# Altium integrated library Kondensator_DIP.IntLib: 1521 symbols (part 2 of 5)
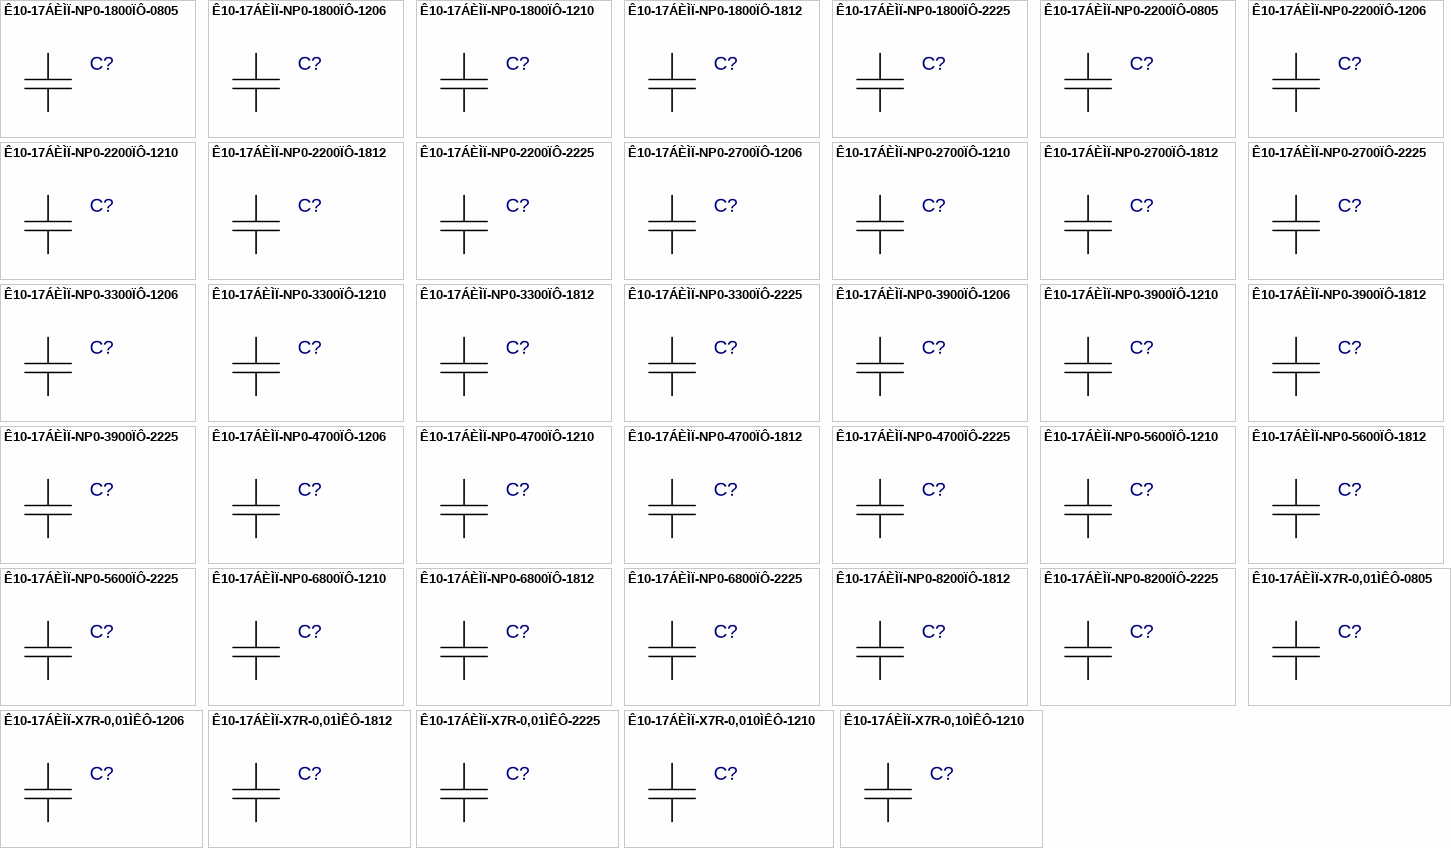
[diagram p39: symbols Ê10-17ÁÈÌÏ-NP0-1800ÏÔ-0805 to Ê10-17ÁÈÌÏ-X7R-0,10ÌÊÔ-1210]

## Ê10-17ÁÈÌÏ-NP0-6800ÏÔ-1812
designator C?  (value not drawn)
Value: *
footprint 1812_DIP
pins: 1, 2

## Ê10-17ÁÈÌÏ-NP0-6800ÏÔ-2225
designator C?  (value not drawn)
Value: *
footprint 2225_DIP
pins: 1, 2

## Ê10-17ÁÈÌÏ-NP0-8200ÏÔ-1812
designator C?  (value not drawn)
Value: *
footprint 1812_DIP
pins: 1, 2

## Ê10-17ÁÈÌÏ-NP0-8200ÏÔ-2225
designator C?  (value not drawn)
Value: *
footprint 2225_DIP
pins: 1, 2

## Ê10-17ÁÈÌÏ-X7R-0,01ÌÊÔ-0805
designator C?  (value not drawn)
Value: *
footprint 0805_DIP
pins: 1, 2

## Ê10-17ÁÈÌÏ-X7R-0,01ÌÊÔ-1206
designator C?  (value not drawn)
Value: *
footprint 1206_DIP
pins: 1, 2

## Ê10-17ÁÈÌÏ-X7R-0,01ÌÊÔ-1812
designator C?  (value not drawn)
Value: *
footprint 1812_DIP
pins: 1, 2

## Ê10-17ÁÈÌÏ-X7R-0,01ÌÊÔ-2225
designator C?  (value not drawn)
Value: *
footprint 2225_DIP
pins: 1, 2

## Ê10-17ÁÈÌÏ-X7R-0,010ÌÊÔ-1210
designator C?  (value not drawn)
Value: *
footprint 1210_DIP
pins: 1, 2

## Ê10-17ÁÈÌÏ-X7R-0,10ÌÊÔ-1210
designator C?  (value not drawn)
Value: *
footprint 1210_DIP
pins: 1, 2

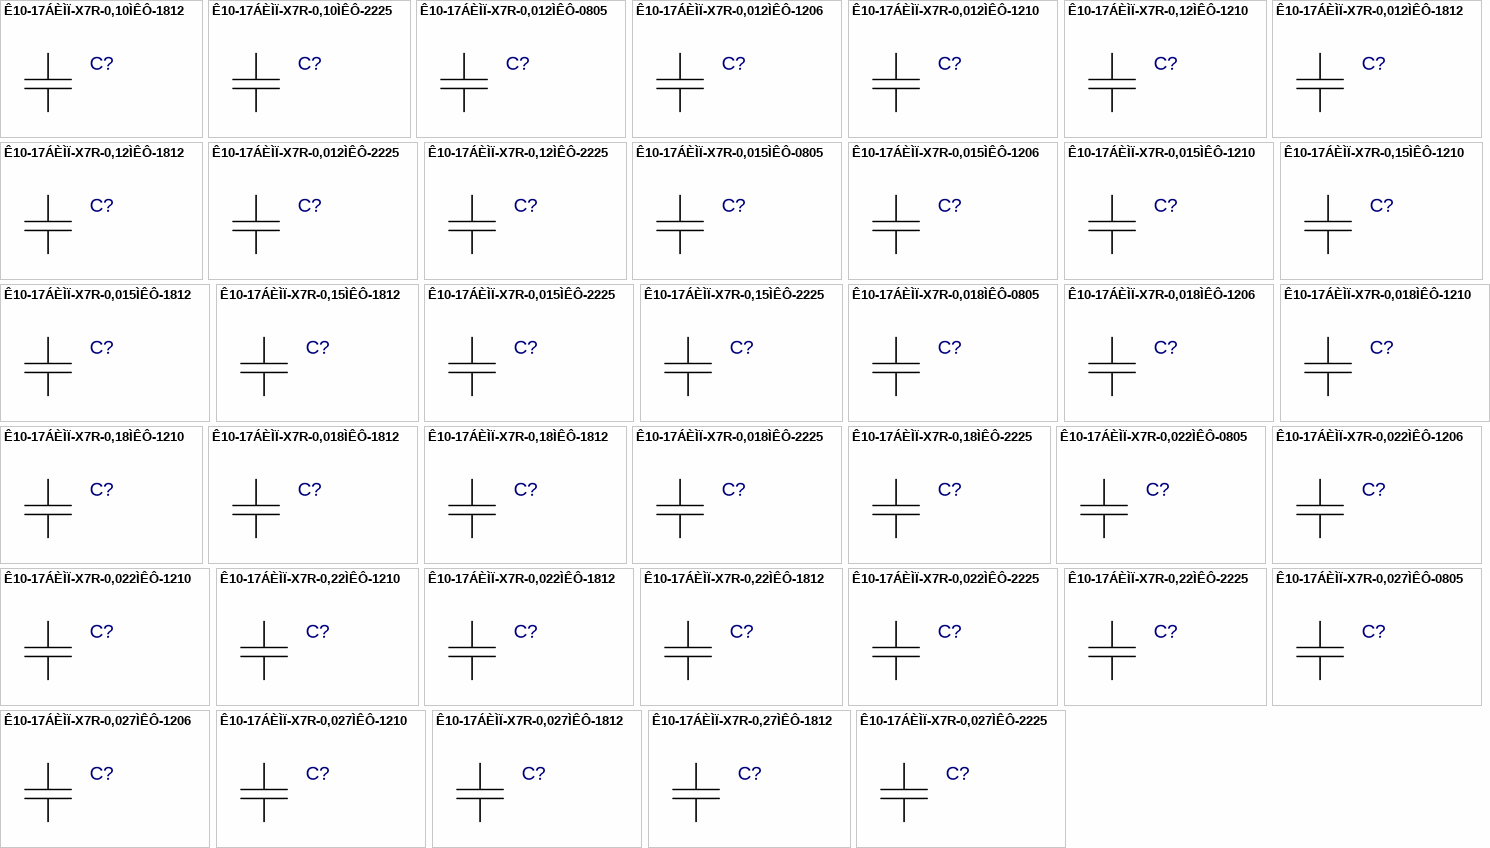
[diagram p12: symbols Ê10-17ÁÈÌÏ-X7R-0,10ÌÊÔ-1812 to Ê10-17ÁÈÌÏ-X7R-0,027ÌÊÔ-2225]

## Ê10-17ÁÈÌÏ-X7R-0,10ÌÊÔ-1812
designator C?  (value not drawn)
Value: *
footprint 1812_DIP
pins: 1, 2

## Ê10-17ÁÈÌÏ-X7R-0,10ÌÊÔ-2225
designator C?  (value not drawn)
Value: *
footprint 2225_DIP
pins: 1, 2

## Ê10-17ÁÈÌÏ-X7R-0,012ÌÊÔ-0805
designator C?  (value not drawn)
Value: *
footprint 0805_DIP
pins: 1, 2

## Ê10-17ÁÈÌÏ-X7R-0,012ÌÊÔ-1206
designator C?  (value not drawn)
Value: *
footprint 1206_DIP
pins: 1, 2

## Ê10-17ÁÈÌÏ-X7R-0,012ÌÊÔ-1210
designator C?  (value not drawn)
Value: *
footprint 1210_DIP
pins: 1, 2

## Ê10-17ÁÈÌÏ-X7R-0,12ÌÊÔ-1210
designator C?  (value not drawn)
Value: *
footprint 1210_DIP
pins: 1, 2

## Ê10-17ÁÈÌÏ-X7R-0,012ÌÊÔ-1812
designator C?  (value not drawn)
Value: *
footprint 1812_DIP
pins: 1, 2

## Ê10-17ÁÈÌÏ-X7R-0,12ÌÊÔ-1812
designator C?  (value not drawn)
Value: *
footprint 1812_DIP
pins: 1, 2

## Ê10-17ÁÈÌÏ-X7R-0,012ÌÊÔ-2225
designator C?  (value not drawn)
Value: *
footprint 2225_DIP
pins: 1, 2

## Ê10-17ÁÈÌÏ-X7R-0,12ÌÊÔ-2225
designator C?  (value not drawn)
Value: *
footprint 2225_DIP
pins: 1, 2

## Ê10-17ÁÈÌÏ-X7R-0,015ÌÊÔ-0805
designator C?  (value not drawn)
Value: *
footprint 0805_DIP
pins: 1, 2

## Ê10-17ÁÈÌÏ-X7R-0,015ÌÊÔ-1206
designator C?  (value not drawn)
Value: *
footprint 1206_DIP
pins: 1, 2

## Ê10-17ÁÈÌÏ-X7R-0,015ÌÊÔ-1210
designator C?  (value not drawn)
Value: *
footprint 1210_DIP
pins: 1, 2

## Ê10-17ÁÈÌÏ-X7R-0,15ÌÊÔ-1210
designator C?  (value not drawn)
Value: *
footprint 1210_DIP
pins: 1, 2

## Ê10-17ÁÈÌÏ-X7R-0,015ÌÊÔ-1812
designator C?  (value not drawn)
Value: *
footprint 1812_DIP
pins: 1, 2

## Ê10-17ÁÈÌÏ-X7R-0,15ÌÊÔ-1812
designator C?  (value not drawn)
Value: *
footprint 1812_DIP
pins: 1, 2

## Ê10-17ÁÈÌÏ-X7R-0,015ÌÊÔ-2225
designator C?  (value not drawn)
Value: *
footprint 2225_DIP
pins: 1, 2

## Ê10-17ÁÈÌÏ-X7R-0,15ÌÊÔ-2225
designator C?  (value not drawn)
Value: *
footprint 2225_DIP
pins: 1, 2

## Ê10-17ÁÈÌÏ-X7R-0,018ÌÊÔ-0805
designator C?  (value not drawn)
Value: *
footprint 0805_DIP
pins: 1, 2

## Ê10-17ÁÈÌÏ-X7R-0,018ÌÊÔ-1206
designator C?  (value not drawn)
Value: *
footprint 1206_DIP
pins: 1, 2

## Ê10-17ÁÈÌÏ-X7R-0,018ÌÊÔ-1210
designator C?  (value not drawn)
Value: *
footprint 1210_DIP
pins: 1, 2

## Ê10-17ÁÈÌÏ-X7R-0,18ÌÊÔ-1210
designator C?  (value not drawn)
Value: *
footprint 1210_DIP
pins: 1, 2

## Ê10-17ÁÈÌÏ-X7R-0,018ÌÊÔ-1812
designator C?  (value not drawn)
Value: *
footprint 1812_DIP
pins: 1, 2

## Ê10-17ÁÈÌÏ-X7R-0,18ÌÊÔ-1812
designator C?  (value not drawn)
Value: *
footprint 1812_DIP
pins: 1, 2

## Ê10-17ÁÈÌÏ-X7R-0,018ÌÊÔ-2225
designator C?  (value not drawn)
Value: *
footprint 2225_DIP
pins: 1, 2

## Ê10-17ÁÈÌÏ-X7R-0,18ÌÊÔ-2225
designator C?  (value not drawn)
Value: *
footprint 2225_DIP
pins: 1, 2

## Ê10-17ÁÈÌÏ-X7R-0,022ÌÊÔ-0805
designator C?  (value not drawn)
Value: *
footprint 0805_DIP
pins: 1, 2

## Ê10-17ÁÈÌÏ-X7R-0,022ÌÊÔ-1206
designator C?  (value not drawn)
Value: *
footprint 1206_DIP
pins: 1, 2

## Ê10-17ÁÈÌÏ-X7R-0,022ÌÊÔ-1210
designator C?  (value not drawn)
Value: *
footprint 1210_DIP
pins: 1, 2

## Ê10-17ÁÈÌÏ-X7R-0,22ÌÊÔ-1210
designator C?  (value not drawn)
Value: *
footprint 1210_DIP
pins: 1, 2

## Ê10-17ÁÈÌÏ-X7R-0,022ÌÊÔ-1812
designator C?  (value not drawn)
Value: *
footprint 1812_DIP
pins: 1, 2

## Ê10-17ÁÈÌÏ-X7R-0,22ÌÊÔ-1812
designator C?  (value not drawn)
Value: *
footprint 1812_DIP
pins: 1, 2

## Ê10-17ÁÈÌÏ-X7R-0,022ÌÊÔ-2225
designator C?  (value not drawn)
Value: *
footprint 2225_DIP
pins: 1, 2

## Ê10-17ÁÈÌÏ-X7R-0,22ÌÊÔ-2225
designator C?  (value not drawn)
Value: *
footprint 2225_DIP
pins: 1, 2

## Ê10-17ÁÈÌÏ-X7R-0,027ÌÊÔ-0805
designator C?  (value not drawn)
Value: *
footprint 0805_DIP
pins: 1, 2

## Ê10-17ÁÈÌÏ-X7R-0,027ÌÊÔ-1206
designator C?  (value not drawn)
Value: *
footprint 1206_DIP
pins: 1, 2

## Ê10-17ÁÈÌÏ-X7R-0,027ÌÊÔ-1210
designator C?  (value not drawn)
Value: *
footprint 1210_DIP
pins: 1, 2

## Ê10-17ÁÈÌÏ-X7R-0,027ÌÊÔ-1812
designator C?  (value not drawn)
Value: *
footprint 1812_DIP
pins: 1, 2

## Ê10-17ÁÈÌÏ-X7R-0,27ÌÊÔ-1812
designator C?  (value not drawn)
Value: *
footprint 1812_DIP
pins: 1, 2

## Ê10-17ÁÈÌÏ-X7R-0,027ÌÊÔ-2225
designator C?  (value not drawn)
Value: *
footprint 2225_DIP
pins: 1, 2

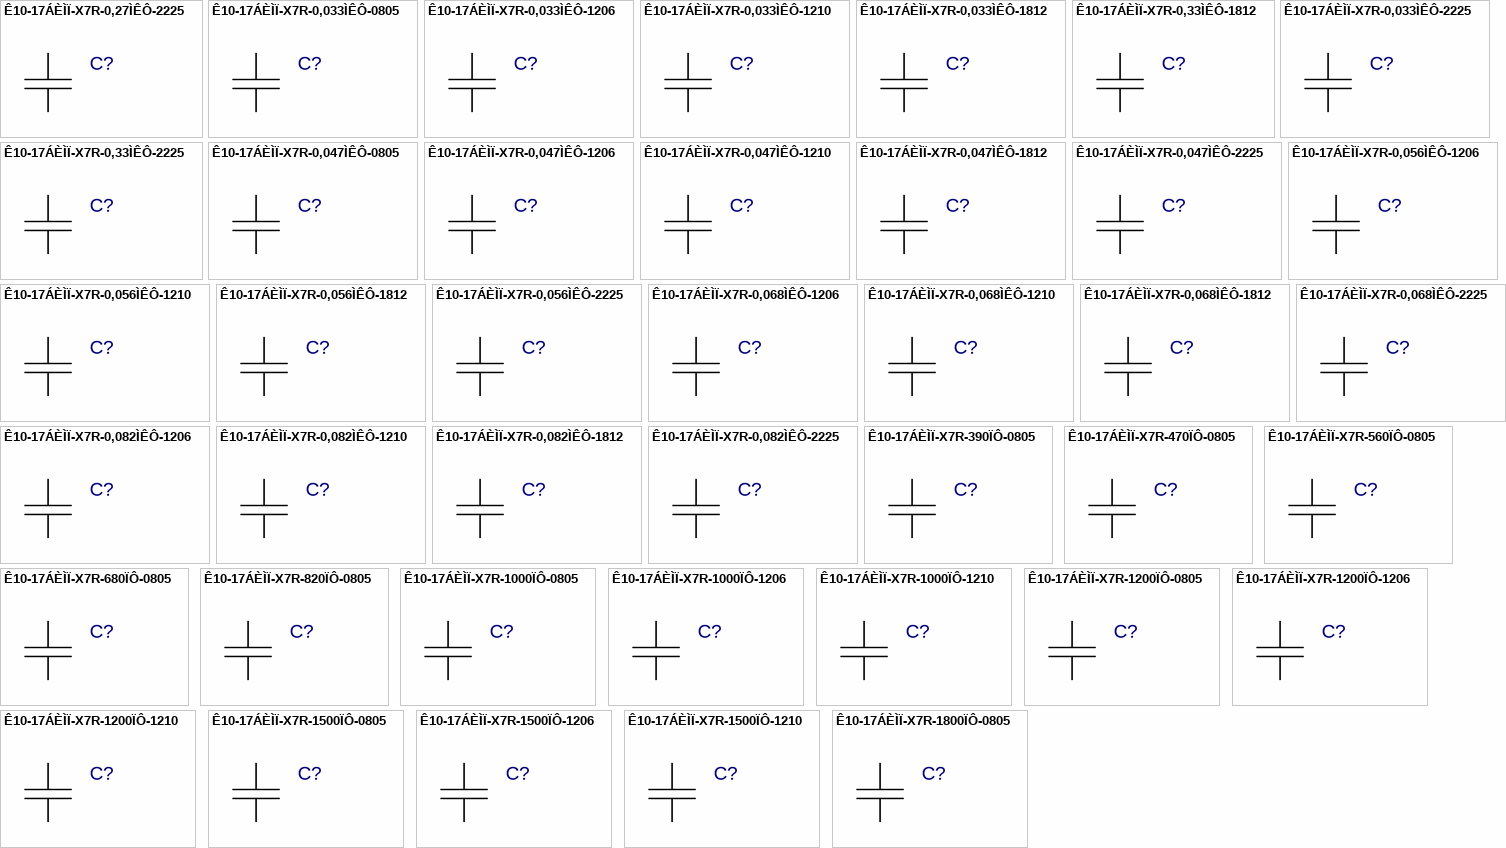
[diagram p13: symbols Ê10-17ÁÈÌÏ-X7R-0,27ÌÊÔ-2225 to Ê10-17ÁÈÌÏ-X7R-1800ÏÔ-0805]

## Ê10-17ÁÈÌÏ-X7R-0,27ÌÊÔ-2225
designator C?  (value not drawn)
Value: *
footprint 2225_DIP
pins: 1, 2

## Ê10-17ÁÈÌÏ-X7R-0,033ÌÊÔ-0805
designator C?  (value not drawn)
Value: *
footprint 0805_DIP
pins: 1, 2

## Ê10-17ÁÈÌÏ-X7R-0,033ÌÊÔ-1206
designator C?  (value not drawn)
Value: *
footprint 1206_DIP
pins: 1, 2

## Ê10-17ÁÈÌÏ-X7R-0,033ÌÊÔ-1210
designator C?  (value not drawn)
Value: *
footprint 1210_DIP
pins: 1, 2

## Ê10-17ÁÈÌÏ-X7R-0,033ÌÊÔ-1812
designator C?  (value not drawn)
Value: *
footprint 1812_DIP
pins: 1, 2

## Ê10-17ÁÈÌÏ-X7R-0,33ÌÊÔ-1812
designator C?  (value not drawn)
Value: *
footprint 1812_DIP
pins: 1, 2

## Ê10-17ÁÈÌÏ-X7R-0,033ÌÊÔ-2225
designator C?  (value not drawn)
Value: *
footprint 2225_DIP
pins: 1, 2

## Ê10-17ÁÈÌÏ-X7R-0,33ÌÊÔ-2225
designator C?  (value not drawn)
Value: *
footprint 2225_DIP
pins: 1, 2

## Ê10-17ÁÈÌÏ-X7R-0,047ÌÊÔ-0805
designator C?  (value not drawn)
Value: *
footprint 0805_DIP
pins: 1, 2

## Ê10-17ÁÈÌÏ-X7R-0,047ÌÊÔ-1206
designator C?  (value not drawn)
Value: *
footprint 1206_DIP
pins: 1, 2

## Ê10-17ÁÈÌÏ-X7R-0,047ÌÊÔ-1210
designator C?  (value not drawn)
Value: *
footprint 1210_DIP
pins: 1, 2

## Ê10-17ÁÈÌÏ-X7R-0,047ÌÊÔ-1812
designator C?  (value not drawn)
Value: *
footprint 1812_DIP
pins: 1, 2

## Ê10-17ÁÈÌÏ-X7R-0,047ÌÊÔ-2225
designator C?  (value not drawn)
Value: *
footprint 2225_DIP
pins: 1, 2

## Ê10-17ÁÈÌÏ-X7R-0,056ÌÊÔ-1206
designator C?  (value not drawn)
Value: *
footprint 1206_DIP
pins: 1, 2

## Ê10-17ÁÈÌÏ-X7R-0,056ÌÊÔ-1210
designator C?  (value not drawn)
Value: *
footprint 1210_DIP
pins: 1, 2

## Ê10-17ÁÈÌÏ-X7R-0,056ÌÊÔ-1812
designator C?  (value not drawn)
Value: *
footprint 1812_DIP
pins: 1, 2

## Ê10-17ÁÈÌÏ-X7R-0,056ÌÊÔ-2225
designator C?  (value not drawn)
Value: *
footprint 2225_DIP
pins: 1, 2

## Ê10-17ÁÈÌÏ-X7R-0,068ÌÊÔ-1206
designator C?  (value not drawn)
Value: *
footprint 1206_DIP
pins: 1, 2

## Ê10-17ÁÈÌÏ-X7R-0,068ÌÊÔ-1210
designator C?  (value not drawn)
Value: *
footprint 1210_DIP
pins: 1, 2

## Ê10-17ÁÈÌÏ-X7R-0,068ÌÊÔ-1812
designator C?  (value not drawn)
Value: *
footprint 1812_DIP
pins: 1, 2

## Ê10-17ÁÈÌÏ-X7R-0,068ÌÊÔ-2225
designator C?  (value not drawn)
Value: *
footprint 2225_DIP
pins: 1, 2

## Ê10-17ÁÈÌÏ-X7R-0,082ÌÊÔ-1206
designator C?  (value not drawn)
Value: *
footprint 1206_DIP
pins: 1, 2

## Ê10-17ÁÈÌÏ-X7R-0,082ÌÊÔ-1210
designator C?  (value not drawn)
Value: *
footprint 1210_DIP
pins: 1, 2

## Ê10-17ÁÈÌÏ-X7R-0,082ÌÊÔ-1812
designator C?  (value not drawn)
Value: *
footprint 1812_DIP
pins: 1, 2

## Ê10-17ÁÈÌÏ-X7R-0,082ÌÊÔ-2225
designator C?  (value not drawn)
Value: *
footprint 2225_DIP
pins: 1, 2

## Ê10-17ÁÈÌÏ-X7R-390ÏÔ-0805
designator C?  (value not drawn)
Value: *
footprint 0805_DIP
pins: 1, 2

## Ê10-17ÁÈÌÏ-X7R-470ÏÔ-0805
designator C?  (value not drawn)
Value: *
footprint 0805_DIP
pins: 1, 2

## Ê10-17ÁÈÌÏ-X7R-560ÏÔ-0805
designator C?  (value not drawn)
Value: *
footprint 0805_DIP
pins: 1, 2

## Ê10-17ÁÈÌÏ-X7R-680ÏÔ-0805
designator C?  (value not drawn)
Value: *
footprint 0805_DIP
pins: 1, 2

## Ê10-17ÁÈÌÏ-X7R-820ÏÔ-0805
designator C?  (value not drawn)
Value: *
footprint 0805_DIP
pins: 1, 2

## Ê10-17ÁÈÌÏ-X7R-1000ÏÔ-0805
designator C?  (value not drawn)
Value: *
footprint 0805_DIP
pins: 1, 2

## Ê10-17ÁÈÌÏ-X7R-1000ÏÔ-1206
designator C?  (value not drawn)
Value: *
footprint 1206_DIP
pins: 1, 2

## Ê10-17ÁÈÌÏ-X7R-1000ÏÔ-1210
designator C?  (value not drawn)
Value: *
footprint 1210_DIP
pins: 1, 2

## Ê10-17ÁÈÌÏ-X7R-1200ÏÔ-0805
designator C?  (value not drawn)
Value: *
footprint 0805_DIP
pins: 1, 2

## Ê10-17ÁÈÌÏ-X7R-1200ÏÔ-1206
designator C?  (value not drawn)
Value: *
footprint 1206_DIP
pins: 1, 2

## Ê10-17ÁÈÌÏ-X7R-1200ÏÔ-1210
designator C?  (value not drawn)
Value: *
footprint 1210_DIP
pins: 1, 2

## Ê10-17ÁÈÌÏ-X7R-1500ÏÔ-0805
designator C?  (value not drawn)
Value: *
footprint 0805_DIP
pins: 1, 2

## Ê10-17ÁÈÌÏ-X7R-1500ÏÔ-1206
designator C?  (value not drawn)
Value: *
footprint 1206_DIP
pins: 1, 2

## Ê10-17ÁÈÌÏ-X7R-1500ÏÔ-1210
designator C?  (value not drawn)
Value: *
footprint 1210_DIP
pins: 1, 2

## Ê10-17ÁÈÌÏ-X7R-1800ÏÔ-0805
designator C?  (value not drawn)
Value: *
footprint 0805_DIP
pins: 1, 2

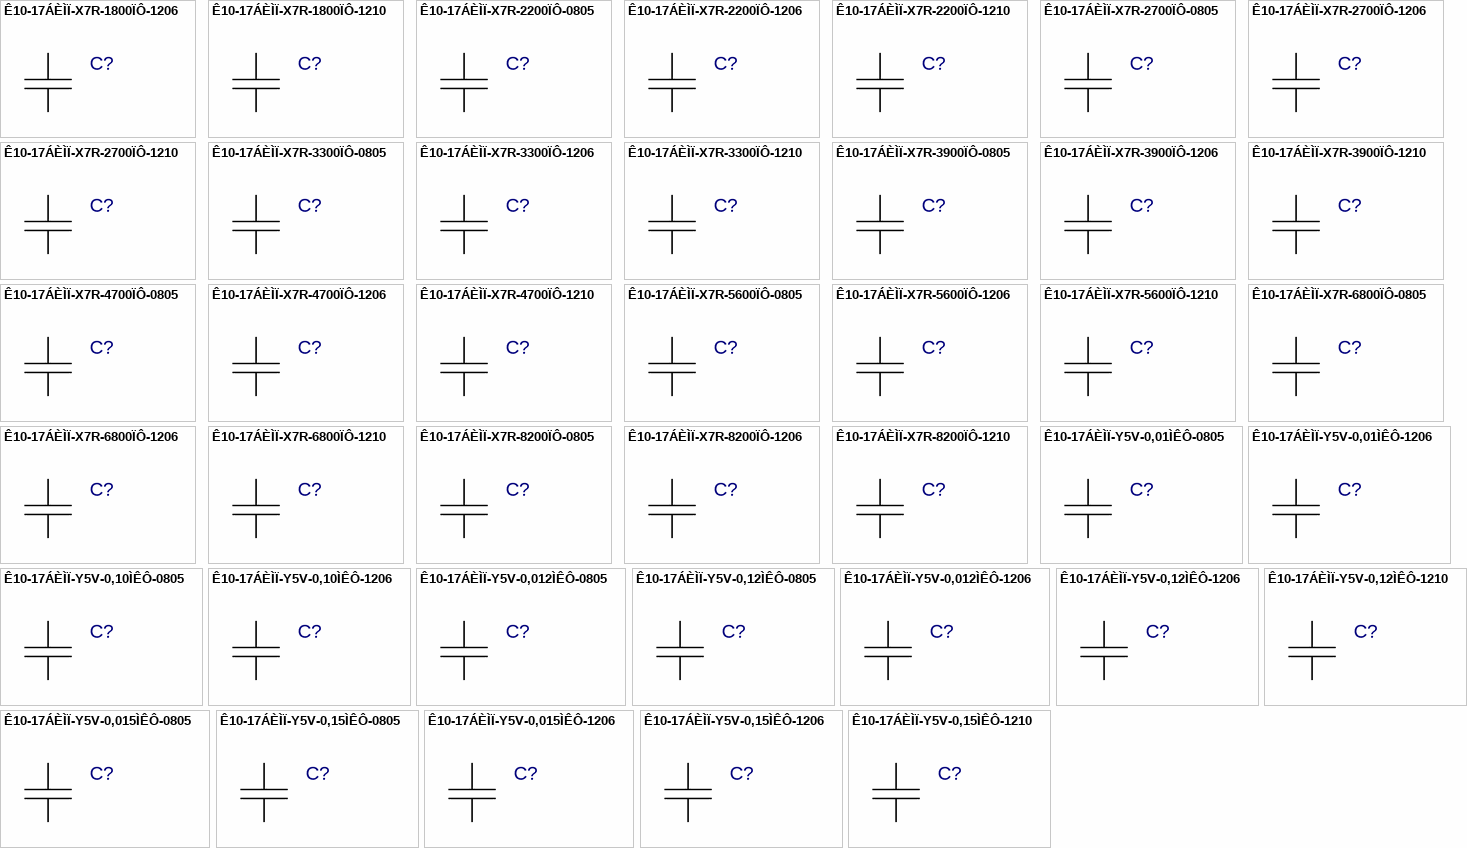
[diagram p14: symbols Ê10-17ÁÈÌÏ-X7R-1800ÏÔ-1206 to Ê10-17ÁÈÌÏ-Y5V-0,15ÌÊÔ-1210]

## Ê10-17ÁÈÌÏ-X7R-1800ÏÔ-1206
designator C?  (value not drawn)
Value: *
footprint 1206_DIP
pins: 1, 2

## Ê10-17ÁÈÌÏ-X7R-1800ÏÔ-1210
designator C?  (value not drawn)
Value: *
footprint 1210_DIP
pins: 1, 2

## Ê10-17ÁÈÌÏ-X7R-2200ÏÔ-0805
designator C?  (value not drawn)
Value: *
footprint 0805_DIP
pins: 1, 2

## Ê10-17ÁÈÌÏ-X7R-2200ÏÔ-1206
designator C?  (value not drawn)
Value: *
footprint 1206_DIP
pins: 1, 2

## Ê10-17ÁÈÌÏ-X7R-2200ÏÔ-1210
designator C?  (value not drawn)
Value: *
footprint 1210_DIP
pins: 1, 2

## Ê10-17ÁÈÌÏ-X7R-2700ÏÔ-0805
designator C?  (value not drawn)
Value: *
footprint 0805_DIP
pins: 1, 2

## Ê10-17ÁÈÌÏ-X7R-2700ÏÔ-1206
designator C?  (value not drawn)
Value: *
footprint 1206_DIP
pins: 1, 2

## Ê10-17ÁÈÌÏ-X7R-2700ÏÔ-1210
designator C?  (value not drawn)
Value: *
footprint 1210_DIP
pins: 1, 2

## Ê10-17ÁÈÌÏ-X7R-3300ÏÔ-0805
designator C?  (value not drawn)
Value: *
footprint 0805_DIP
pins: 1, 2

## Ê10-17ÁÈÌÏ-X7R-3300ÏÔ-1206
designator C?  (value not drawn)
Value: *
footprint 1206_DIP
pins: 1, 2

## Ê10-17ÁÈÌÏ-X7R-3300ÏÔ-1210
designator C?  (value not drawn)
Value: *
footprint 1210_DIP
pins: 1, 2

## Ê10-17ÁÈÌÏ-X7R-3900ÏÔ-0805
designator C?  (value not drawn)
Value: *
footprint 0805_DIP
pins: 1, 2

## Ê10-17ÁÈÌÏ-X7R-3900ÏÔ-1206
designator C?  (value not drawn)
Value: *
footprint 1206_DIP
pins: 1, 2

## Ê10-17ÁÈÌÏ-X7R-3900ÏÔ-1210
designator C?  (value not drawn)
Value: *
footprint 1210_DIP
pins: 1, 2

## Ê10-17ÁÈÌÏ-X7R-4700ÏÔ-0805
designator C?  (value not drawn)
Value: *
footprint 0805_DIP
pins: 1, 2

## Ê10-17ÁÈÌÏ-X7R-4700ÏÔ-1206
designator C?  (value not drawn)
Value: *
footprint 1206_DIP
pins: 1, 2

## Ê10-17ÁÈÌÏ-X7R-4700ÏÔ-1210
designator C?  (value not drawn)
Value: *
footprint 1210_DIP
pins: 1, 2

## Ê10-17ÁÈÌÏ-X7R-5600ÏÔ-0805
designator C?  (value not drawn)
Value: *
footprint 0805_DIP
pins: 1, 2

## Ê10-17ÁÈÌÏ-X7R-5600ÏÔ-1206
designator C?  (value not drawn)
Value: *
footprint 1206_DIP
pins: 1, 2

## Ê10-17ÁÈÌÏ-X7R-5600ÏÔ-1210
designator C?  (value not drawn)
Value: *
footprint 1210_DIP
pins: 1, 2

## Ê10-17ÁÈÌÏ-X7R-6800ÏÔ-0805
designator C?  (value not drawn)
Value: *
footprint 0805_DIP
pins: 1, 2

## Ê10-17ÁÈÌÏ-X7R-6800ÏÔ-1206
designator C?  (value not drawn)
Value: *
footprint 1206_DIP
pins: 1, 2

## Ê10-17ÁÈÌÏ-X7R-6800ÏÔ-1210
designator C?  (value not drawn)
Value: *
footprint 1210_DIP
pins: 1, 2

## Ê10-17ÁÈÌÏ-X7R-8200ÏÔ-0805
designator C?  (value not drawn)
Value: *
footprint 0805_DIP
pins: 1, 2

## Ê10-17ÁÈÌÏ-X7R-8200ÏÔ-1206
designator C?  (value not drawn)
Value: *
footprint 1206_DIP
pins: 1, 2

## Ê10-17ÁÈÌÏ-X7R-8200ÏÔ-1210
designator C?  (value not drawn)
Value: *
footprint 1210_DIP
pins: 1, 2

## Ê10-17ÁÈÌÏ-Y5V-0,01ÌÊÔ-0805
designator C?  (value not drawn)
Value: *
footprint 0805_DIP
pins: 1, 2

## Ê10-17ÁÈÌÏ-Y5V-0,01ÌÊÔ-1206
designator C?  (value not drawn)
Value: *
footprint 1206_DIP
pins: 1, 2

## Ê10-17ÁÈÌÏ-Y5V-0,10ÌÊÔ-0805
designator C?  (value not drawn)
Value: *
footprint 0805_DIP
pins: 1, 2

## Ê10-17ÁÈÌÏ-Y5V-0,10ÌÊÔ-1206
designator C?  (value not drawn)
Value: *
footprint 1206_DIP
pins: 1, 2

## Ê10-17ÁÈÌÏ-Y5V-0,012ÌÊÔ-0805
designator C?  (value not drawn)
Value: *
footprint 0805_DIP
pins: 1, 2

## Ê10-17ÁÈÌÏ-Y5V-0,12ÌÊÔ-0805
designator C?  (value not drawn)
Value: *
footprint 0805_DIP
pins: 1, 2

## Ê10-17ÁÈÌÏ-Y5V-0,012ÌÊÔ-1206
designator C?  (value not drawn)
Value: *
footprint 1206_DIP
pins: 1, 2

## Ê10-17ÁÈÌÏ-Y5V-0,12ÌÊÔ-1206
designator C?  (value not drawn)
Value: *
footprint 1206_DIP
pins: 1, 2

## Ê10-17ÁÈÌÏ-Y5V-0,12ÌÊÔ-1210
designator C?  (value not drawn)
Value: *
footprint 1210_DIP
pins: 1, 2

## Ê10-17ÁÈÌÏ-Y5V-0,015ÌÊÔ-0805
designator C?  (value not drawn)
Value: *
footprint 0805_DIP
pins: 1, 2

## Ê10-17ÁÈÌÏ-Y5V-0,15ÌÊÔ-0805
designator C?  (value not drawn)
Value: *
footprint 0805_DIP
pins: 1, 2

## Ê10-17ÁÈÌÏ-Y5V-0,015ÌÊÔ-1206
designator C?  (value not drawn)
Value: *
footprint 1206_DIP
pins: 1, 2

## Ê10-17ÁÈÌÏ-Y5V-0,15ÌÊÔ-1206
designator C?  (value not drawn)
Value: *
footprint 1206_DIP
pins: 1, 2

## Ê10-17ÁÈÌÏ-Y5V-0,15ÌÊÔ-1210
designator C?  (value not drawn)
Value: *
footprint 1210_DIP
pins: 1, 2

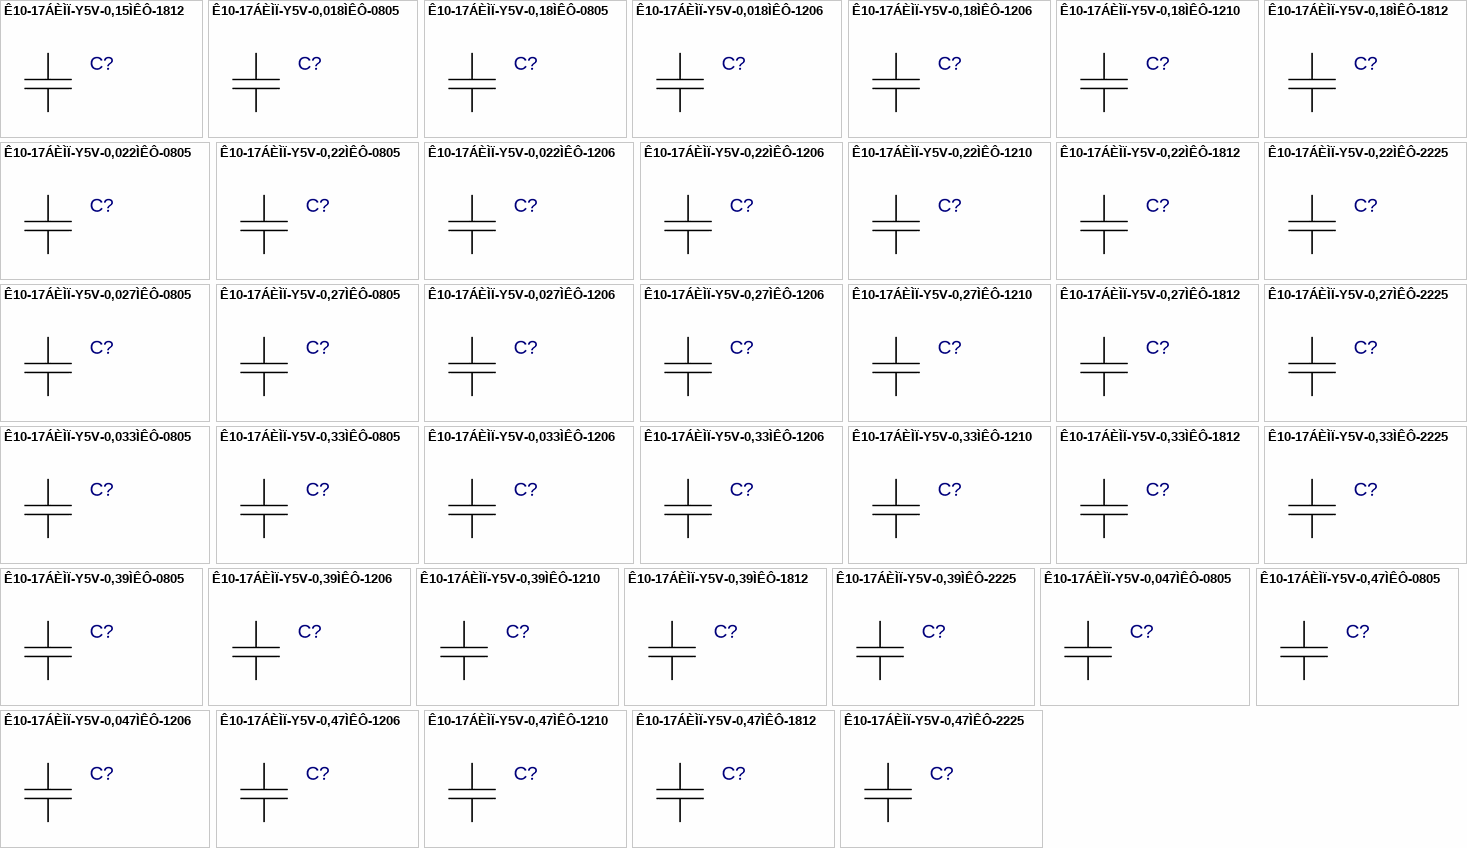
[diagram p15: symbols Ê10-17ÁÈÌÏ-Y5V-0,15ÌÊÔ-1812 to Ê10-17ÁÈÌÏ-Y5V-0,47ÌÊÔ-2225]

## Ê10-17ÁÈÌÏ-Y5V-0,15ÌÊÔ-1812
designator C?  (value not drawn)
Value: *
footprint 1812_DIP
pins: 1, 2

## Ê10-17ÁÈÌÏ-Y5V-0,018ÌÊÔ-0805
designator C?  (value not drawn)
Value: *
footprint 0805_DIP
pins: 1, 2

## Ê10-17ÁÈÌÏ-Y5V-0,18ÌÊÔ-0805
designator C?  (value not drawn)
Value: *
footprint 0805_DIP
pins: 1, 2

## Ê10-17ÁÈÌÏ-Y5V-0,018ÌÊÔ-1206
designator C?  (value not drawn)
Value: *
footprint 1206_DIP
pins: 1, 2

## Ê10-17ÁÈÌÏ-Y5V-0,18ÌÊÔ-1206
designator C?  (value not drawn)
Value: *
footprint 1206_DIP
pins: 1, 2

## Ê10-17ÁÈÌÏ-Y5V-0,18ÌÊÔ-1210
designator C?  (value not drawn)
Value: *
footprint 1210_DIP
pins: 1, 2

## Ê10-17ÁÈÌÏ-Y5V-0,18ÌÊÔ-1812
designator C?  (value not drawn)
Value: *
footprint 1812_DIP
pins: 1, 2

## Ê10-17ÁÈÌÏ-Y5V-0,022ÌÊÔ-0805
designator C?  (value not drawn)
Value: *
footprint 0805_DIP
pins: 1, 2

## Ê10-17ÁÈÌÏ-Y5V-0,22ÌÊÔ-0805
designator C?  (value not drawn)
Value: *
footprint 0805_DIP
pins: 1, 2

## Ê10-17ÁÈÌÏ-Y5V-0,022ÌÊÔ-1206
designator C?  (value not drawn)
Value: *
footprint 1206_DIP
pins: 1, 2

## Ê10-17ÁÈÌÏ-Y5V-0,22ÌÊÔ-1206
designator C?  (value not drawn)
Value: *
footprint 1206_DIP
pins: 1, 2

## Ê10-17ÁÈÌÏ-Y5V-0,22ÌÊÔ-1210
designator C?  (value not drawn)
Value: *
footprint 1210_DIP
pins: 1, 2

## Ê10-17ÁÈÌÏ-Y5V-0,22ÌÊÔ-1812
designator C?  (value not drawn)
Value: *
footprint 1812_DIP
pins: 1, 2

## Ê10-17ÁÈÌÏ-Y5V-0,22ÌÊÔ-2225
designator C?  (value not drawn)
Value: *
footprint 2225_DIP
pins: 1, 2

## Ê10-17ÁÈÌÏ-Y5V-0,027ÌÊÔ-0805
designator C?  (value not drawn)
Value: *
footprint 0805_DIP
pins: 1, 2

## Ê10-17ÁÈÌÏ-Y5V-0,27ÌÊÔ-0805
designator C?  (value not drawn)
Value: *
footprint 0805_DIP
pins: 1, 2

## Ê10-17ÁÈÌÏ-Y5V-0,027ÌÊÔ-1206
designator C?  (value not drawn)
Value: *
footprint 1206_DIP
pins: 1, 2

## Ê10-17ÁÈÌÏ-Y5V-0,27ÌÊÔ-1206
designator C?  (value not drawn)
Value: *
footprint 1206_DIP
pins: 1, 2

## Ê10-17ÁÈÌÏ-Y5V-0,27ÌÊÔ-1210
designator C?  (value not drawn)
Value: *
footprint 1210_DIP
pins: 1, 2

## Ê10-17ÁÈÌÏ-Y5V-0,27ÌÊÔ-1812
designator C?  (value not drawn)
Value: *
footprint 1812_DIP
pins: 1, 2

## Ê10-17ÁÈÌÏ-Y5V-0,27ÌÊÔ-2225
designator C?  (value not drawn)
Value: *
footprint 2225_DIP
pins: 1, 2

## Ê10-17ÁÈÌÏ-Y5V-0,033ÌÊÔ-0805
designator C?  (value not drawn)
Value: *
footprint 0805_DIP
pins: 1, 2

## Ê10-17ÁÈÌÏ-Y5V-0,33ÌÊÔ-0805
designator C?  (value not drawn)
Value: *
footprint 0805_DIP
pins: 1, 2

## Ê10-17ÁÈÌÏ-Y5V-0,033ÌÊÔ-1206
designator C?  (value not drawn)
Value: *
footprint 1206_DIP
pins: 1, 2

## Ê10-17ÁÈÌÏ-Y5V-0,33ÌÊÔ-1206
designator C?  (value not drawn)
Value: *
footprint 1206_DIP
pins: 1, 2

## Ê10-17ÁÈÌÏ-Y5V-0,33ÌÊÔ-1210
designator C?  (value not drawn)
Value: *
footprint 1210_DIP
pins: 1, 2

## Ê10-17ÁÈÌÏ-Y5V-0,33ÌÊÔ-1812
designator C?  (value not drawn)
Value: *
footprint 1812_DIP
pins: 1, 2

## Ê10-17ÁÈÌÏ-Y5V-0,33ÌÊÔ-2225
designator C?  (value not drawn)
Value: *
footprint 2225_DIP
pins: 1, 2

## Ê10-17ÁÈÌÏ-Y5V-0,39ÌÊÔ-0805
designator C?  (value not drawn)
Value: *
footprint 0805_DIP
pins: 1, 2

## Ê10-17ÁÈÌÏ-Y5V-0,39ÌÊÔ-1206
designator C?  (value not drawn)
Value: *
footprint 1206_DIP
pins: 1, 2

## Ê10-17ÁÈÌÏ-Y5V-0,39ÌÊÔ-1210
designator C?  (value not drawn)
Value: *
footprint 1210_DIP
pins: 1, 2

## Ê10-17ÁÈÌÏ-Y5V-0,39ÌÊÔ-1812
designator C?  (value not drawn)
Value: *
footprint 1812_DIP
pins: 1, 2

## Ê10-17ÁÈÌÏ-Y5V-0,39ÌÊÔ-2225
designator C?  (value not drawn)
Value: *
footprint 2225_DIP
pins: 1, 2

## Ê10-17ÁÈÌÏ-Y5V-0,047ÌÊÔ-0805
designator C?  (value not drawn)
Value: *
footprint 0805_DIP
pins: 1, 2

## Ê10-17ÁÈÌÏ-Y5V-0,47ÌÊÔ-0805
designator C?  (value not drawn)
Value: *
footprint 0805_DIP
pins: 1, 2

## Ê10-17ÁÈÌÏ-Y5V-0,047ÌÊÔ-1206
designator C?  (value not drawn)
Value: *
footprint 1206_DIP
pins: 1, 2

## Ê10-17ÁÈÌÏ-Y5V-0,47ÌÊÔ-1206
designator C?  (value not drawn)
Value: *
footprint 1206_DIP
pins: 1, 2

## Ê10-17ÁÈÌÏ-Y5V-0,47ÌÊÔ-1210
designator C?  (value not drawn)
Value: *
footprint 1210_DIP
pins: 1, 2

## Ê10-17ÁÈÌÏ-Y5V-0,47ÌÊÔ-1812
designator C?  (value not drawn)
Value: *
footprint 1812_DIP
pins: 1, 2

## Ê10-17ÁÈÌÏ-Y5V-0,47ÌÊÔ-2225
designator C?  (value not drawn)
Value: *
footprint 2225_DIP
pins: 1, 2

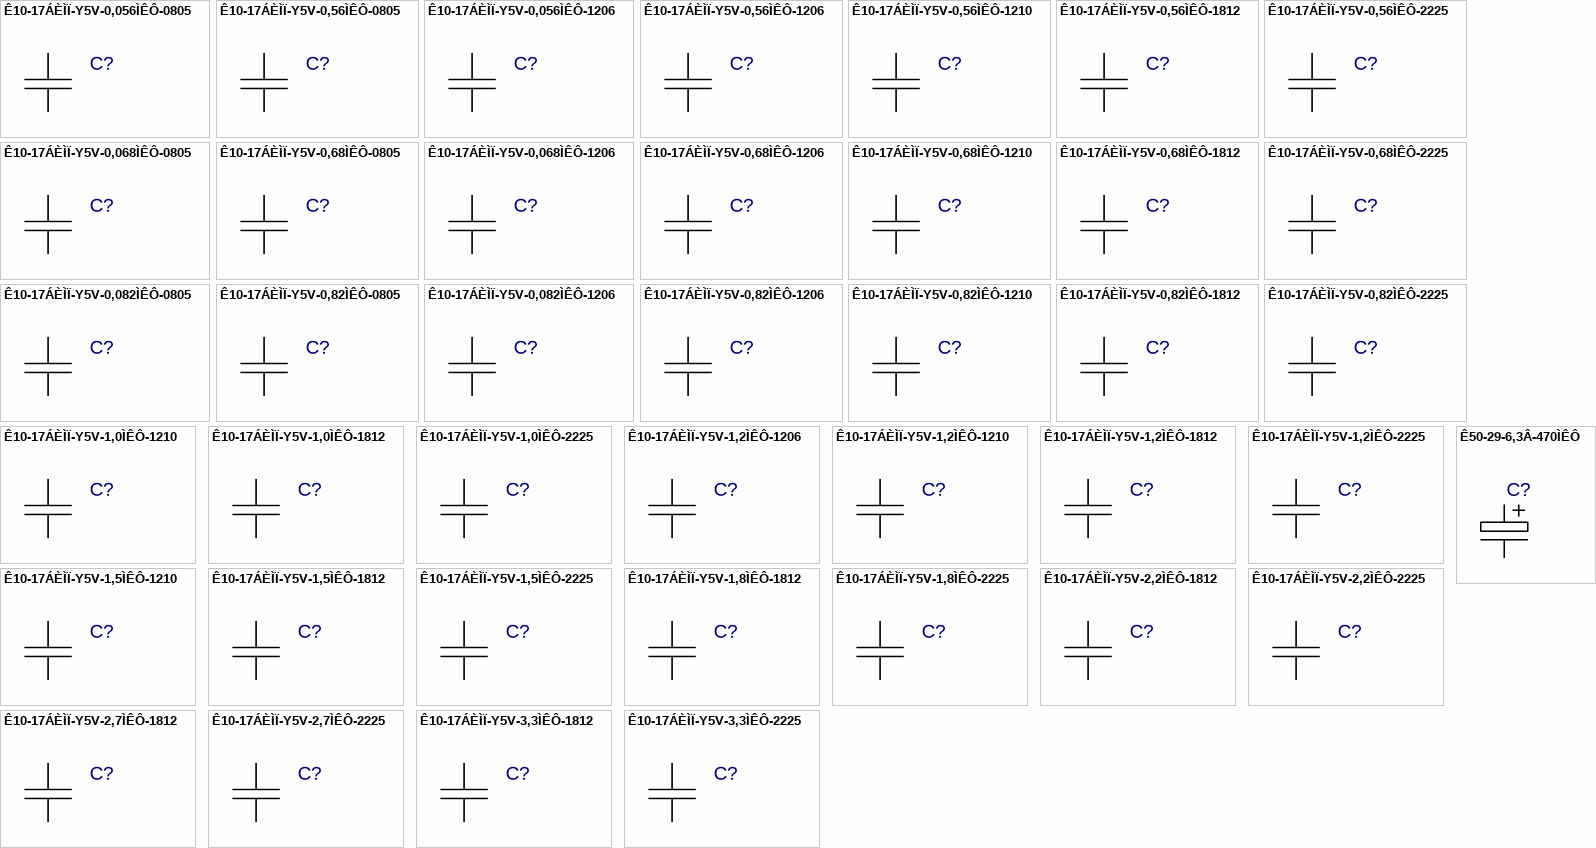
[diagram p16: symbols Ê10-17ÁÈÌÏ-Y5V-0,056ÌÊÔ-0805 to Ê50-29-6,3Â-470ÌÊÔ]

## Ê10-17ÁÈÌÏ-Y5V-0,056ÌÊÔ-0805
designator C?  (value not drawn)
Value: *
footprint 0805_DIP
pins: 1, 2

## Ê10-17ÁÈÌÏ-Y5V-0,56ÌÊÔ-0805
designator C?  (value not drawn)
Value: *
footprint 0805_DIP
pins: 1, 2

## Ê10-17ÁÈÌÏ-Y5V-0,056ÌÊÔ-1206
designator C?  (value not drawn)
Value: *
footprint 1206_DIP
pins: 1, 2

## Ê10-17ÁÈÌÏ-Y5V-0,56ÌÊÔ-1206
designator C?  (value not drawn)
Value: *
footprint 1206_DIP
pins: 1, 2

## Ê10-17ÁÈÌÏ-Y5V-0,56ÌÊÔ-1210
designator C?  (value not drawn)
Value: *
footprint 1210_DIP
pins: 1, 2

## Ê10-17ÁÈÌÏ-Y5V-0,56ÌÊÔ-1812
designator C?  (value not drawn)
Value: *
footprint 1812_DIP
pins: 1, 2

## Ê10-17ÁÈÌÏ-Y5V-0,56ÌÊÔ-2225
designator C?  (value not drawn)
Value: *
footprint 2225_DIP
pins: 1, 2

## Ê10-17ÁÈÌÏ-Y5V-0,068ÌÊÔ-0805
designator C?  (value not drawn)
Value: *
footprint 0805_DIP
pins: 1, 2

## Ê10-17ÁÈÌÏ-Y5V-0,68ÌÊÔ-0805
designator C?  (value not drawn)
Value: *
footprint 0805_DIP
pins: 1, 2

## Ê10-17ÁÈÌÏ-Y5V-0,068ÌÊÔ-1206
designator C?  (value not drawn)
Value: *
footprint 1206_DIP
pins: 1, 2

## Ê10-17ÁÈÌÏ-Y5V-0,68ÌÊÔ-1206
designator C?  (value not drawn)
Value: *
footprint 1206_DIP
pins: 1, 2

## Ê10-17ÁÈÌÏ-Y5V-0,68ÌÊÔ-1210
designator C?  (value not drawn)
Value: *
footprint 1210_DIP
pins: 1, 2

## Ê10-17ÁÈÌÏ-Y5V-0,68ÌÊÔ-1812
designator C?  (value not drawn)
Value: *
footprint 1812_DIP
pins: 1, 2

## Ê10-17ÁÈÌÏ-Y5V-0,68ÌÊÔ-2225
designator C?  (value not drawn)
Value: *
footprint 2225_DIP
pins: 1, 2

## Ê10-17ÁÈÌÏ-Y5V-0,082ÌÊÔ-0805
designator C?  (value not drawn)
Value: *
footprint 0805_DIP
pins: 1, 2

## Ê10-17ÁÈÌÏ-Y5V-0,82ÌÊÔ-0805
designator C?  (value not drawn)
Value: *
footprint 0805_DIP
pins: 1, 2

## Ê10-17ÁÈÌÏ-Y5V-0,082ÌÊÔ-1206
designator C?  (value not drawn)
Value: *
footprint 1206_DIP
pins: 1, 2

## Ê10-17ÁÈÌÏ-Y5V-0,82ÌÊÔ-1206
designator C?  (value not drawn)
Value: *
footprint 1206_DIP
pins: 1, 2

## Ê10-17ÁÈÌÏ-Y5V-0,82ÌÊÔ-1210
designator C?  (value not drawn)
Value: *
footprint 1210_DIP
pins: 1, 2

## Ê10-17ÁÈÌÏ-Y5V-0,82ÌÊÔ-1812
designator C?  (value not drawn)
Value: *
footprint 1812_DIP
pins: 1, 2

## Ê10-17ÁÈÌÏ-Y5V-0,82ÌÊÔ-2225
designator C?  (value not drawn)
Value: *
footprint 2225_DIP
pins: 1, 2

## Ê10-17ÁÈÌÏ-Y5V-1,0ÌÊÔ-1210
designator C?  (value not drawn)
Value: *
footprint 1210_DIP
pins: 1, 2

## Ê10-17ÁÈÌÏ-Y5V-1,0ÌÊÔ-1812
designator C?  (value not drawn)
Value: *
footprint 1812_DIP
pins: 1, 2

## Ê10-17ÁÈÌÏ-Y5V-1,0ÌÊÔ-2225
designator C?  (value not drawn)
Value: *
footprint 2225_DIP
pins: 1, 2

## Ê10-17ÁÈÌÏ-Y5V-1,2ÌÊÔ-1206
designator C?  (value not drawn)
Value: *
footprint 1206_DIP
pins: 1, 2

## Ê10-17ÁÈÌÏ-Y5V-1,2ÌÊÔ-1210
designator C?  (value not drawn)
Value: *
footprint 1210_DIP
pins: 1, 2

## Ê10-17ÁÈÌÏ-Y5V-1,2ÌÊÔ-1812
designator C?  (value not drawn)
Value: *
footprint 1812_DIP
pins: 1, 2

## Ê10-17ÁÈÌÏ-Y5V-1,2ÌÊÔ-2225
designator C?  (value not drawn)
Value: *
footprint 2225_DIP
pins: 1, 2

## Ê10-17ÁÈÌÏ-Y5V-1,5ÌÊÔ-1210
designator C?  (value not drawn)
Value: *
footprint 1210_DIP
pins: 1, 2

## Ê10-17ÁÈÌÏ-Y5V-1,5ÌÊÔ-1812
designator C?  (value not drawn)
Value: *
footprint 1812_DIP
pins: 1, 2

## Ê10-17ÁÈÌÏ-Y5V-1,5ÌÊÔ-2225
designator C?  (value not drawn)
Value: *
footprint 2225_DIP
pins: 1, 2

## Ê10-17ÁÈÌÏ-Y5V-1,8ÌÊÔ-1812
designator C?  (value not drawn)
Value: *
footprint 1812_DIP
pins: 1, 2

## Ê10-17ÁÈÌÏ-Y5V-1,8ÌÊÔ-2225
designator C?  (value not drawn)
Value: *
footprint 2225_DIP
pins: 1, 2

## Ê10-17ÁÈÌÏ-Y5V-2,2ÌÊÔ-1812
designator C?  (value not drawn)
Value: *
footprint 1812_DIP
pins: 1, 2

## Ê10-17ÁÈÌÏ-Y5V-2,2ÌÊÔ-2225
designator C?  (value not drawn)
Value: *
footprint 2225_DIP
pins: 1, 2

## Ê10-17ÁÈÌÏ-Y5V-2,7ÌÊÔ-1812
designator C?  (value not drawn)
Value: *
footprint 1812_DIP
pins: 1, 2

## Ê10-17ÁÈÌÏ-Y5V-2,7ÌÊÔ-2225
designator C?  (value not drawn)
Value: *
footprint 2225_DIP
pins: 1, 2

## Ê10-17ÁÈÌÏ-Y5V-3,3ÌÊÔ-1812
designator C?  (value not drawn)
Value: *
footprint 1812_DIP
pins: 1, 2

## Ê10-17ÁÈÌÏ-Y5V-3,3ÌÊÔ-2225
designator C?  (value not drawn)
Value: *
footprint 2225_DIP
pins: 1, 2

## Ê50-29-6,3Â-470ÌÊÔ
designator C?  (value not drawn)
Value: *
footprint K50-29(0820)
pins: 1, 2

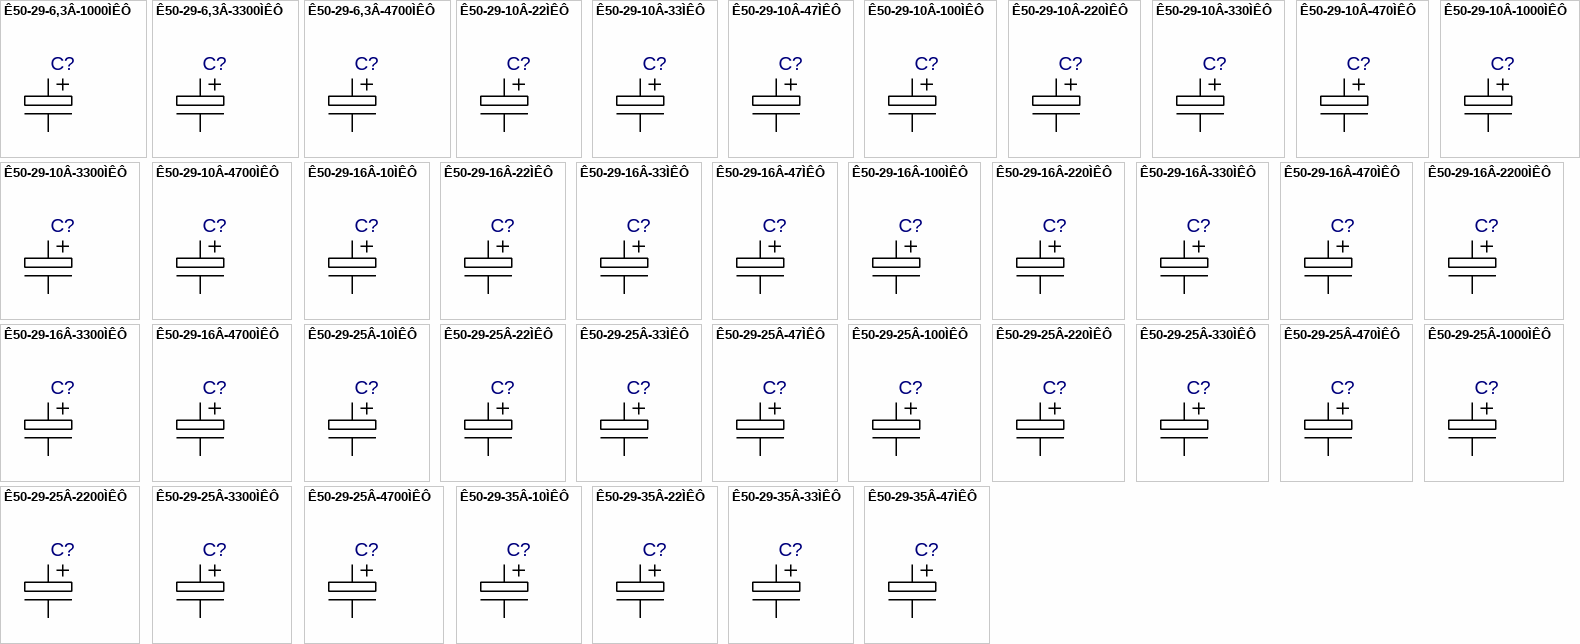
[diagram p17: symbols Ê50-29-6,3Â-1000ÌÊÔ to Ê50-29-35Â-47ÌÊÔ]

## Ê50-29-6,3Â-1000ÌÊÔ
designator C?  (value not drawn)
Value: *
footprint K50-29(1021)
pins: 1, 2

## Ê50-29-6,3Â-3300ÌÊÔ
designator C?  (value not drawn)
Value: *
footprint K50-29(1326)
pins: 1, 2

## Ê50-29-6,3Â-4700ÌÊÔ
designator C?  (value not drawn)
Value: *
footprint K50-29(1628)
pins: 1, 2

## Ê50-29-10Â-22ÌÊÔ
designator C?  (value not drawn)
Value: *
footprint K50-29(0613)
pins: 1, 2

## Ê50-29-10Â-33ÌÊÔ
designator C?  (value not drawn)
Value: *
footprint K50-29(0613)
pins: 1, 2

## Ê50-29-10Â-47ÌÊÔ
designator C?  (value not drawn)
Value: *
footprint K50-29(0613)
pins: 1, 2

## Ê50-29-10Â-100ÌÊÔ
designator C?  (value not drawn)
Value: *
footprint K50-29(0613)
pins: 1, 2

## Ê50-29-10Â-220ÌÊÔ
designator C?  (value not drawn)
Value: *
footprint K50-29(0816)
pins: 1, 2

## Ê50-29-10Â-330ÌÊÔ
designator C?  (value not drawn)
Value: *
footprint K50-29(0816)
pins: 1, 2

## Ê50-29-10Â-470ÌÊÔ
designator C?  (value not drawn)
Value: *
footprint K50-29(0820)
pins: 1, 2

## Ê50-29-10Â-1000ÌÊÔ
designator C?  (value not drawn)
Value: *
footprint K50-29(1021)
pins: 1, 2

## Ê50-29-10Â-3300ÌÊÔ
designator C?  (value not drawn)
Value: *
footprint K50-29(1326)
pins: 1, 2

## Ê50-29-10Â-4700ÌÊÔ
designator C?  (value not drawn)
Value: *
footprint K50-29(1628)
pins: 1, 2

## Ê50-29-16Â-10ÌÊÔ
designator C?  (value not drawn)
Value: *
footprint K50-29(0613)
pins: 1, 2

## Ê50-29-16Â-22ÌÊÔ
designator C?  (value not drawn)
Value: *
footprint K50-29(0613)
pins: 1, 2

## Ê50-29-16Â-33ÌÊÔ
designator C?  (value not drawn)
Value: *
footprint K50-29(0613)
pins: 1, 2

## Ê50-29-16Â-47ÌÊÔ
designator C?  (value not drawn)
Value: *
footprint K50-29(0613)
pins: 1, 2

## Ê50-29-16Â-100ÌÊÔ
designator C?  (value not drawn)
Value: *
footprint K50-29(0816)
pins: 1, 2

## Ê50-29-16Â-220ÌÊÔ
designator C?  (value not drawn)
Value: *
footprint K50-29(0816)
pins: 1, 2

## Ê50-29-16Â-330ÌÊÔ
designator C?  (value not drawn)
Value: *
footprint K50-29(0816)
pins: 1, 2

## Ê50-29-16Â-470ÌÊÔ
designator C?  (value not drawn)
Value: *
footprint K50-29(1016)
pins: 1, 2

## Ê50-29-16Â-2200ÌÊÔ
designator C?  (value not drawn)
Value: *
footprint K50-29(1326)
pins: 1, 2

## Ê50-29-16Â-3300ÌÊÔ
designator C?  (value not drawn)
Value: *
footprint K50-29(1633)
pins: 1, 2

## Ê50-29-16Â-4700ÌÊÔ
designator C?  (value not drawn)
Value: *
footprint K50-29(1636)
pins: 1, 2

## Ê50-29-25Â-10ÌÊÔ
designator C?  (value not drawn)
Value: *
footprint K50-29(0613)
pins: 1, 2

## Ê50-29-25Â-22ÌÊÔ
designator C?  (value not drawn)
Value: *
footprint K50-29(0613)
pins: 1, 2

## Ê50-29-25Â-33ÌÊÔ
designator C?  (value not drawn)
Value: *
footprint K50-29(0613)
pins: 1, 2

## Ê50-29-25Â-47ÌÊÔ
designator C?  (value not drawn)
Value: *
footprint K50-29(0613)
pins: 1, 2

## Ê50-29-25Â-100ÌÊÔ
designator C?  (value not drawn)
Value: *
footprint K50-29(0816)
pins: 1, 2

## Ê50-29-25Â-220ÌÊÔ
designator C?  (value not drawn)
Value: *
footprint K50-29(0816)
pins: 1, 2

## Ê50-29-25Â-330ÌÊÔ
designator C?  (value not drawn)
Value: *
footprint K50-29(1021)
pins: 1, 2

## Ê50-29-25Â-470ÌÊÔ
designator C?  (value not drawn)
Value: *
footprint K50-29(1021)
pins: 1, 2

## Ê50-29-25Â-1000ÌÊÔ
designator C?  (value not drawn)
Value: *
footprint K50-29(1326)
pins: 1, 2

## Ê50-29-25Â-2200ÌÊÔ
designator C?  (value not drawn)
Value: *
footprint K50-29(1633)
pins: 1, 2

## Ê50-29-25Â-3300ÌÊÔ
designator C?  (value not drawn)
Value: *
footprint K50-29(1636)
pins: 1, 2

## Ê50-29-25Â-4700ÌÊÔ
designator C?  (value not drawn)
Value: *
footprint K50-29(1836)
pins: 1, 2

## Ê50-29-35Â-10ÌÊÔ
designator C?  (value not drawn)
Value: *
footprint K50-29(0613)
pins: 1, 2

## Ê50-29-35Â-22ÌÊÔ
designator C?  (value not drawn)
Value: *
footprint K50-29(0613)
pins: 1, 2

## Ê50-29-35Â-33ÌÊÔ
designator C?  (value not drawn)
Value: *
footprint K50-29(0613)
pins: 1, 2

## Ê50-29-35Â-47ÌÊÔ
designator C?  (value not drawn)
Value: *
footprint K50-29(0613)
pins: 1, 2

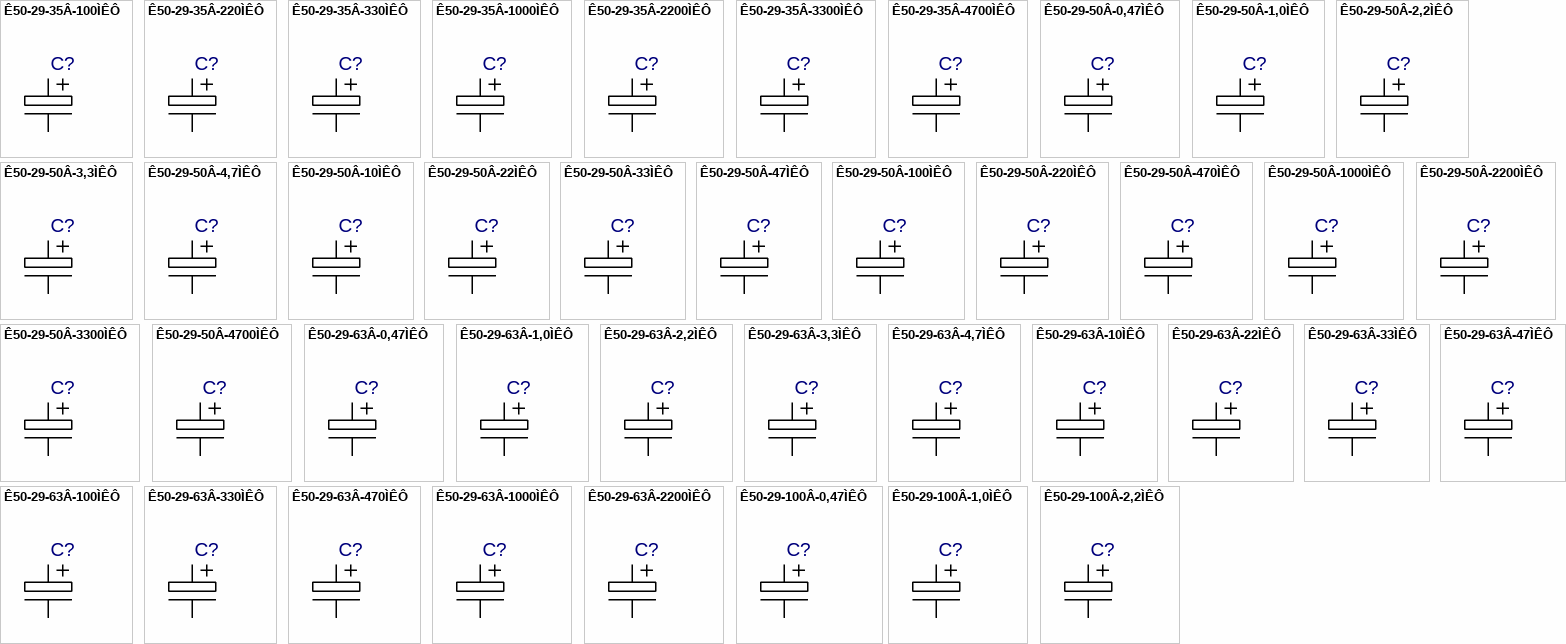
[diagram p18: symbols Ê50-29-35Â-100ÌÊÔ to Ê50-29-100Â-2,2ÌÊÔ]

## Ê50-29-35Â-100ÌÊÔ
designator C?  (value not drawn)
Value: *
footprint K50-29(0816)
pins: 1, 2

## Ê50-29-35Â-220ÌÊÔ
designator C?  (value not drawn)
Value: *
footprint K50-29(1021)
pins: 1, 2

## Ê50-29-35Â-330ÌÊÔ
designator C?  (value not drawn)
Value: *
footprint K50-29(1021)
pins: 1, 2

## Ê50-29-35Â-1000ÌÊÔ
designator C?  (value not drawn)
Value: *
footprint K50-29(1326)
pins: 1, 2

## Ê50-29-35Â-2200ÌÊÔ
designator C?  (value not drawn)
Value: *
footprint K50-29(1636)
pins: 1, 2

## Ê50-29-35Â-3300ÌÊÔ
designator C?  (value not drawn)
Value: *
footprint K50-29(2036)
pins: 1, 2

## Ê50-29-35Â-4700ÌÊÔ
designator C?  (value not drawn)
Value: *
footprint K50-29(2242)
pins: 1, 2

## Ê50-29-50Â-0,47ÌÊÔ
designator C?  (value not drawn)
Value: *
footprint K50-29(0613)
pins: 1, 2

## Ê50-29-50Â-1,0ÌÊÔ
designator C?  (value not drawn)
Value: *
footprint K50-29(0613)
pins: 1, 2

## Ê50-29-50Â-2,2ÌÊÔ
designator C?  (value not drawn)
Value: *
footprint K50-29(0613)
pins: 1, 2

## Ê50-29-50Â-3,3ÌÊÔ
designator C?  (value not drawn)
Value: *
footprint K50-29(0613)
pins: 1, 2

## Ê50-29-50Â-4,7ÌÊÔ
designator C?  (value not drawn)
Value: *
footprint K50-29(0613)
pins: 1, 2

## Ê50-29-50Â-10ÌÊÔ
designator C?  (value not drawn)
Value: *
footprint K50-29(0613)
pins: 1, 2

## Ê50-29-50Â-22ÌÊÔ
designator C?  (value not drawn)
Value: *
footprint K50-29(0613)
pins: 1, 2

## Ê50-29-50Â-33ÌÊÔ
designator C?  (value not drawn)
Value: *
footprint K50-29(0816)
pins: 1, 2

## Ê50-29-50Â-47ÌÊÔ
designator C?  (value not drawn)
Value: *
footprint K50-29(0816)
pins: 1, 2

## Ê50-29-50Â-100ÌÊÔ
designator C?  (value not drawn)
Value: *
footprint K50-29(0816)
pins: 1, 2

## Ê50-29-50Â-220ÌÊÔ
designator C?  (value not drawn)
Value: *
footprint K50-29(1021)
pins: 1, 2

## Ê50-29-50Â-470ÌÊÔ
designator C?  (value not drawn)
Value: *
footprint K50-29(1326)
pins: 1, 2

## Ê50-29-50Â-1000ÌÊÔ
designator C?  (value not drawn)
Value: *
footprint K50-29(1633)
pins: 1, 2

## Ê50-29-50Â-2200ÌÊÔ
designator C?  (value not drawn)
Value: *
footprint K50-29(1836)
pins: 1, 2

## Ê50-29-50Â-3300ÌÊÔ
designator C?  (value not drawn)
Value: *
footprint K50-29(2242)
pins: 1, 2

## Ê50-29-50Â-4700ÌÊÔ
designator C?  (value not drawn)
Value: *
footprint K50-29(2543)
pins: 1, 2

## Ê50-29-63Â-0,47ÌÊÔ
designator C?  (value not drawn)
Value: *
footprint K50-29(0613)
pins: 1, 2

## Ê50-29-63Â-1,0ÌÊÔ
designator C?  (value not drawn)
Value: *
footprint K50-29(0613)
pins: 1, 2

## Ê50-29-63Â-2,2ÌÊÔ
designator C?  (value not drawn)
Value: *
footprint K50-29(0613)
pins: 1, 2

## Ê50-29-63Â-3,3ÌÊÔ
designator C?  (value not drawn)
Value: *
footprint K50-29(0613)
pins: 1, 2

## Ê50-29-63Â-4,7ÌÊÔ
designator C?  (value not drawn)
Value: *
footprint K50-29(0613)
pins: 1, 2

## Ê50-29-63Â-10ÌÊÔ
designator C?  (value not drawn)
Value: *
footprint K50-29(0613)
pins: 1, 2

## Ê50-29-63Â-22ÌÊÔ
designator C?  (value not drawn)
Value: *
footprint K50-29(0816)
pins: 1, 2

## Ê50-29-63Â-33ÌÊÔ
designator C?  (value not drawn)
Value: *
footprint K50-29(0816)
pins: 1, 2

## Ê50-29-63Â-47ÌÊÔ
designator C?  (value not drawn)
Value: *
footprint K50-29(1016)
pins: 1, 2

## Ê50-29-63Â-100ÌÊÔ
designator C?  (value not drawn)
Value: *
footprint K50-29(1021)
pins: 1, 2

## Ê50-29-63Â-330ÌÊÔ
designator C?  (value not drawn)
Value: *
footprint K50-29(1326)
pins: 1, 2

## Ê50-29-63Â-470ÌÊÔ
designator C?  (value not drawn)
Value: *
footprint K50-29(1628)
pins: 1, 2

## Ê50-29-63Â-1000ÌÊÔ
designator C?  (value not drawn)
Value: *
footprint K50-29(1836)
pins: 1, 2

## Ê50-29-63Â-2200ÌÊÔ
designator C?  (value not drawn)
Value: *
footprint K50-29(2242)
pins: 1, 2

## Ê50-29-100Â-0,47ÌÊÔ
designator C?  (value not drawn)
Value: *
footprint K50-29(0613)
pins: 1, 2

## Ê50-29-100Â-1,0ÌÊÔ
designator C?  (value not drawn)
Value: *
footprint K50-29(0613)
pins: 1, 2

## Ê50-29-100Â-2,2ÌÊÔ
designator C?  (value not drawn)
Value: *
footprint K50-29(0613)
pins: 1, 2

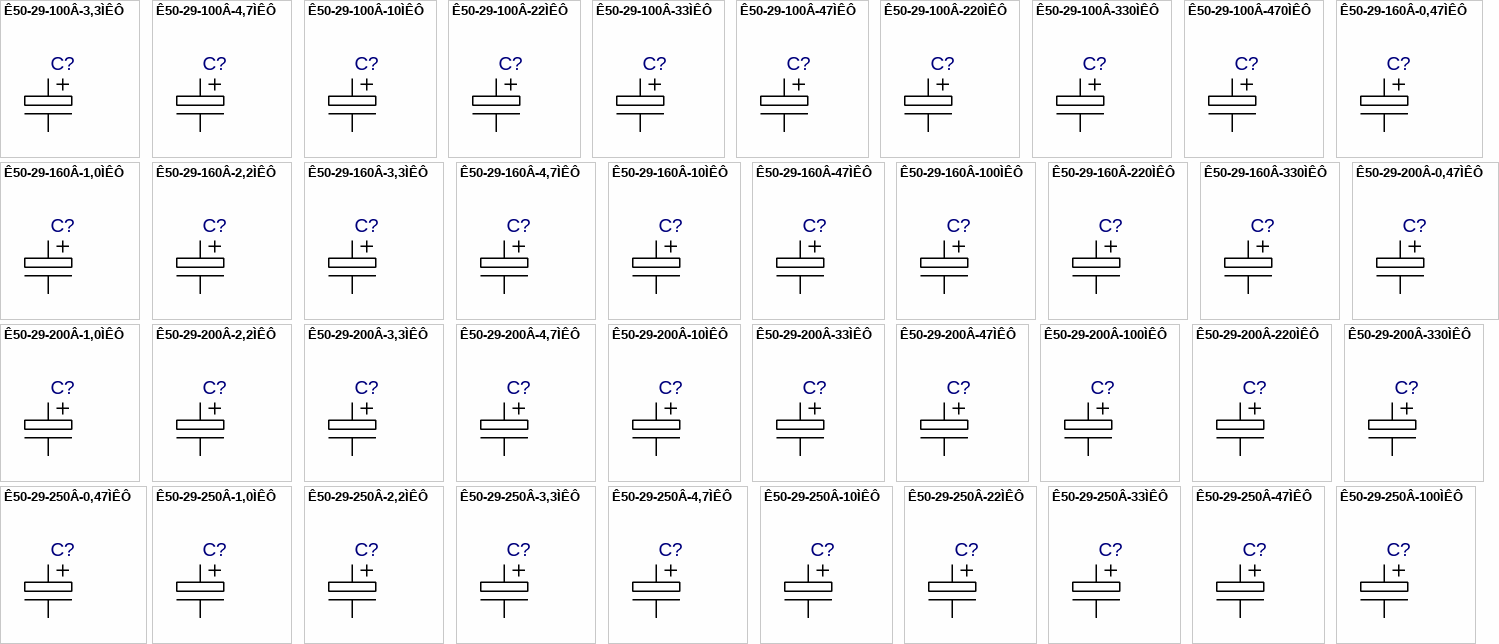
[diagram p19: symbols Ê50-29-100Â-3,3ÌÊÔ to Ê50-29-250Â-100ÌÊÔ]

## Ê50-29-100Â-3,3ÌÊÔ
designator C?  (value not drawn)
Value: *
footprint K50-29(0613)
pins: 1, 2

## Ê50-29-100Â-4,7ÌÊÔ
designator C?  (value not drawn)
Value: *
footprint K50-29(0613)
pins: 1, 2

## Ê50-29-100Â-10ÌÊÔ
designator C?  (value not drawn)
Value: *
footprint K50-29(0816)
pins: 1, 2

## Ê50-29-100Â-22ÌÊÔ
designator C?  (value not drawn)
Value: *
footprint K50-29(0820)
pins: 1, 2

## Ê50-29-100Â-33ÌÊÔ
designator C?  (value not drawn)
Value: *
footprint K50-29(0820)
pins: 1, 2

## Ê50-29-100Â-47ÌÊÔ
designator C?  (value not drawn)
Value: *
footprint K50-29(1021)
pins: 1, 2

## Ê50-29-100Â-220ÌÊÔ
designator C?  (value not drawn)
Value: *
footprint K50-29(1628)
pins: 1, 2

## Ê50-29-100Â-330ÌÊÔ
designator C?  (value not drawn)
Value: *
footprint K50-29(1633)
pins: 1, 2

## Ê50-29-100Â-470ÌÊÔ
designator C?  (value not drawn)
Value: *
footprint K50-29(1836)
pins: 1, 2

## Ê50-29-160Â-0,47ÌÊÔ
designator C?  (value not drawn)
Value: *
footprint K50-29(0613)
pins: 1, 2

## Ê50-29-160Â-1,0ÌÊÔ
designator C?  (value not drawn)
Value: *
footprint K50-29(0613)
pins: 1, 2

## Ê50-29-160Â-2,2ÌÊÔ
designator C?  (value not drawn)
Value: *
footprint K50-29(0816)
pins: 1, 2

## Ê50-29-160Â-3,3ÌÊÔ
designator C?  (value not drawn)
Value: *
footprint K50-29(0816)
pins: 1, 2

## Ê50-29-160Â-4,7ÌÊÔ
designator C?  (value not drawn)
Value: *
footprint K50-29(0816)
pins: 1, 2

## Ê50-29-160Â-10ÌÊÔ
designator C?  (value not drawn)
Value: *
footprint K50-29(1021)
pins: 1, 2

## Ê50-29-160Â-47ÌÊÔ
designator C?  (value not drawn)
Value: *
footprint K50-29(1628)
pins: 1, 2

## Ê50-29-160Â-100ÌÊÔ
designator C?  (value not drawn)
Value: *
footprint K50-29(1633)
pins: 1, 2

## Ê50-29-160Â-220ÌÊÔ
designator C?  (value not drawn)
Value: *
footprint K50-29(2242)
pins: 1, 2

## Ê50-29-160Â-330ÌÊÔ
designator C?  (value not drawn)
Value: *
footprint K50-29(2250)
pins: 1, 2

## Ê50-29-200Â-0,47ÌÊÔ
designator C?  (value not drawn)
Value: *
footprint K50-29(0816)
pins: 1, 2

## Ê50-29-200Â-1,0ÌÊÔ
designator C?  (value not drawn)
Value: *
footprint K50-29(0816)
pins: 1, 2

## Ê50-29-200Â-2,2ÌÊÔ
designator C?  (value not drawn)
Value: *
footprint K50-29(0816)
pins: 1, 2

## Ê50-29-200Â-3,3ÌÊÔ
designator C?  (value not drawn)
Value: *
footprint K50-29(1016)
pins: 1, 2

## Ê50-29-200Â-4,7ÌÊÔ
designator C?  (value not drawn)
Value: *
footprint K50-29(1016)
pins: 1, 2

## Ê50-29-200Â-10ÌÊÔ
designator C?  (value not drawn)
Value: *
footprint K50-29(1021)
pins: 1, 2

## Ê50-29-200Â-33ÌÊÔ
designator C?  (value not drawn)
Value: *
footprint K50-29(1628)
pins: 1, 2

## Ê50-29-200Â-47ÌÊÔ
designator C?  (value not drawn)
Value: *
footprint K50-29(1633)
pins: 1, 2

## Ê50-29-200Â-100ÌÊÔ
designator C?  (value not drawn)
Value: *
footprint K50-29(1836)
pins: 1, 2

## Ê50-29-200Â-220ÌÊÔ
designator C?  (value not drawn)
Value: *
footprint K50-29(2242)
pins: 1, 2

## Ê50-29-200Â-330ÌÊÔ
designator C?  (value not drawn)
Value: *
footprint K50-29(2552)
pins: 1, 2

## Ê50-29-250Â-0,47ÌÊÔ
designator C?  (value not drawn)
Value: *
footprint K50-29(0816)
pins: 1, 2

## Ê50-29-250Â-1,0ÌÊÔ
designator C?  (value not drawn)
Value: *
footprint K50-29(0816)
pins: 1, 2

## Ê50-29-250Â-2,2ÌÊÔ
designator C?  (value not drawn)
Value: *
footprint K50-29(0816)
pins: 1, 2

## Ê50-29-250Â-3,3ÌÊÔ
designator C?  (value not drawn)
Value: *
footprint K50-29(1016)
pins: 1, 2

## Ê50-29-250Â-4,7ÌÊÔ
designator C?  (value not drawn)
Value: *
footprint K50-29(1016)
pins: 1, 2

## Ê50-29-250Â-10ÌÊÔ
designator C?  (value not drawn)
Value: *
footprint K50-29(1021)
pins: 1, 2

## Ê50-29-250Â-22ÌÊÔ
designator C?  (value not drawn)
Value: *
footprint K50-29(1326)
pins: 1, 2

## Ê50-29-250Â-33ÌÊÔ
designator C?  (value not drawn)
Value: *
footprint K50-29(1633)
pins: 1, 2

## Ê50-29-250Â-47ÌÊÔ
designator C?  (value not drawn)
Value: *
footprint K50-29(1633)
pins: 1, 2

## Ê50-29-250Â-100ÌÊÔ
designator C?  (value not drawn)
Value: *
footprint K50-29(1836)
pins: 1, 2

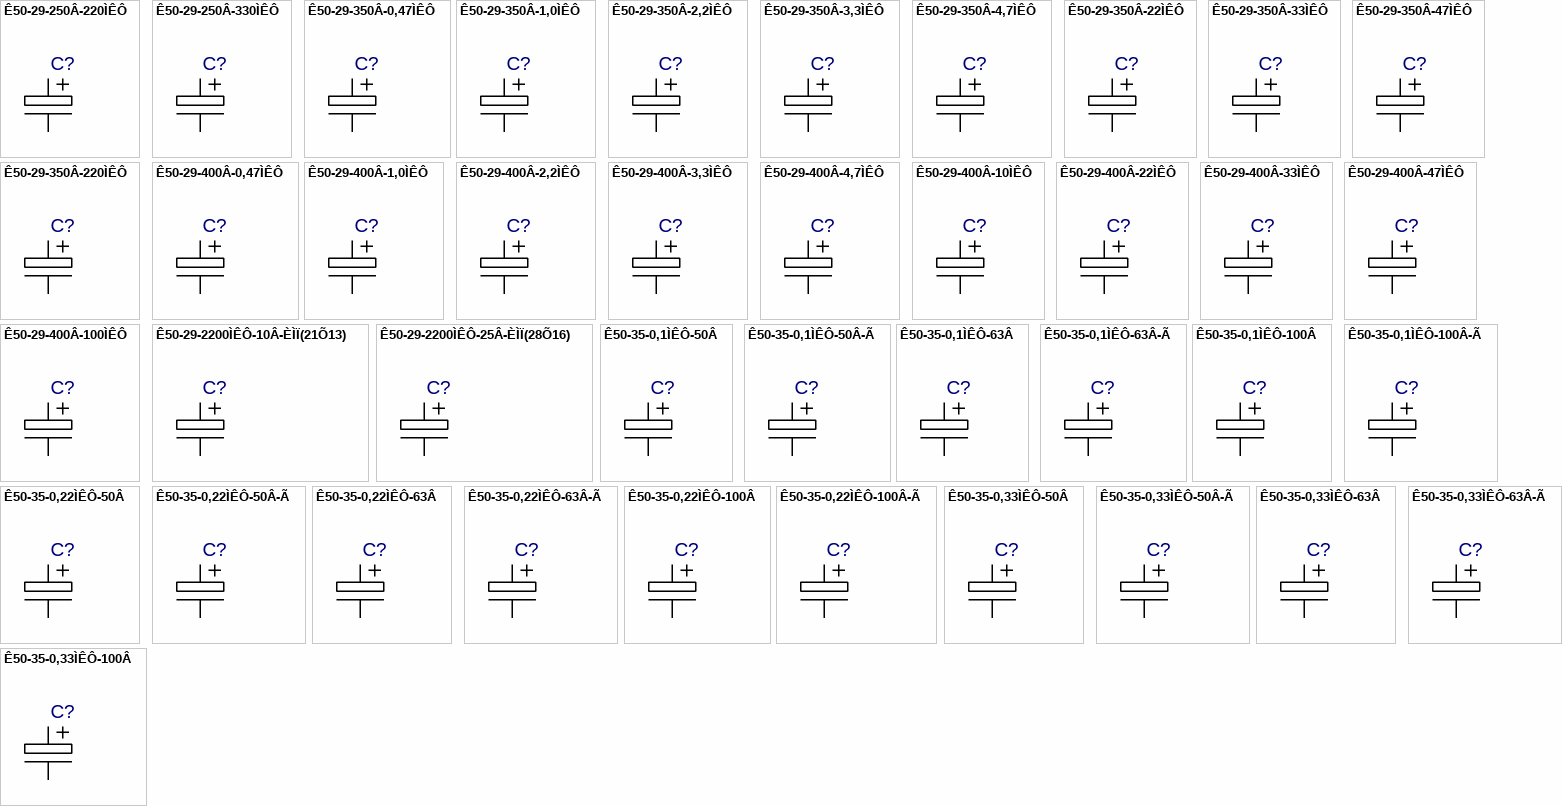
[diagram p20: symbols Ê50-29-250Â-220ÌÊÔ to Ê50-35-0,33ÌÊÔ-100Â]

## Ê50-29-250Â-220ÌÊÔ
designator C?  (value not drawn)
Value: *
footprint K50-29(2242)
pins: 1, 2

## Ê50-29-250Â-330ÌÊÔ
designator C?  (value not drawn)
Value: *
footprint K50-29(2557)
pins: 1, 2

## Ê50-29-350Â-0,47ÌÊÔ
designator C?  (value not drawn)
Value: *
footprint K50-29(0816)
pins: 1, 2

## Ê50-29-350Â-1,0ÌÊÔ
designator C?  (value not drawn)
Value: *
footprint K50-29(0816)
pins: 1, 2

## Ê50-29-350Â-2,2ÌÊÔ
designator C?  (value not drawn)
Value: *
footprint K50-29(1016)
pins: 1, 2

## Ê50-29-350Â-3,3ÌÊÔ
designator C?  (value not drawn)
Value: *
footprint K50-29(1016)
pins: 1, 2

## Ê50-29-350Â-4,7ÌÊÔ
designator C?  (value not drawn)
Value: *
footprint K50-29(1021)
pins: 1, 2

## Ê50-29-350Â-22ÌÊÔ
designator C?  (value not drawn)
Value: *
footprint K50-29(1633)
pins: 1, 2

## Ê50-29-350Â-33ÌÊÔ
designator C?  (value not drawn)
Value: *
footprint K50-29(1633)
pins: 1, 2

## Ê50-29-350Â-47ÌÊÔ
designator C?  (value not drawn)
Value: *
footprint K50-29(1636)
pins: 1, 2

## Ê50-29-350Â-220ÌÊÔ
designator C?  (value not drawn)
Value: *
footprint K50-29(2557)
pins: 1, 2

## Ê50-29-400Â-0,47ÌÊÔ
designator C?  (value not drawn)
Value: *
footprint K50-29(0816)
pins: 1, 2

## Ê50-29-400Â-1,0ÌÊÔ
designator C?  (value not drawn)
Value: *
footprint K50-29(0816)
pins: 1, 2

## Ê50-29-400Â-2,2ÌÊÔ
designator C?  (value not drawn)
Value: *
footprint K50-29(1016)
pins: 1, 2

## Ê50-29-400Â-3,3ÌÊÔ
designator C?  (value not drawn)
Value: *
footprint K50-29(1021)
pins: 1, 2

## Ê50-29-400Â-4,7ÌÊÔ
designator C?  (value not drawn)
Value: *
footprint K50-29(1321)
pins: 1, 2

## Ê50-29-400Â-10ÌÊÔ
designator C?  (value not drawn)
Value: *
footprint K50-29(1324)
pins: 1, 2

## Ê50-29-400Â-22ÌÊÔ
designator C?  (value not drawn)
Value: *
footprint K50-29(1633)
pins: 1, 2

## Ê50-29-400Â-33ÌÊÔ
designator C?  (value not drawn)
Value: *
footprint K50-29(1836)
pins: 1, 2

## Ê50-29-400Â-47ÌÊÔ
designator C?  (value not drawn)
Value: *
footprint K50-29(1836)
pins: 1, 2

## Ê50-29-400Â-100ÌÊÔ
designator C?  (value not drawn)
Value: *
footprint K50-29(2242)
pins: 1, 2

## Ê50-29-2200ÌÊÔ-10Â-ÈÌÏ(21Õ13)
designator C?  (value not drawn)
Value: *
footprint Ê50-29-21Õ13
pins: 1, 2

## Ê50-29-2200ÌÊÔ-25Â-ÈÌÏ(28Õ16)
designator C?  (value not drawn)
Value: *
footprint Ê50-29-28Õ16
pins: 1, 2

## Ê50-35-0,1ÌÊÔ-50Â
designator C?  (value not drawn)
Value: *
footprint Ê50-35-0511_K5035-1R
footprint Ê50-35-0511_K5035-1R1
footprint Ê50-35-0511_Primary
pins: 1, 2

## Ê50-35-0,1ÌÊÔ-50Â-Ã
designator C?  (value not drawn)
Value: *
footprint Ê50-35-0511-Ã_K5035-1R
footprint Ê50-35-0511-Ã_K5035-1R1
footprint Ê50-35-0511-Ã_Primary
pins: 1, 2

## Ê50-35-0,1ÌÊÔ-63Â
designator C?  (value not drawn)
Value: *
footprint Ê50-35-0511_K5035-1R
footprint Ê50-35-0511_K5035-1R1
footprint Ê50-35-0511_Primary
pins: 1, 2

## Ê50-35-0,1ÌÊÔ-63Â-Ã
designator C?  (value not drawn)
Value: *
footprint Ê50-35-0511-Ã_K5035-1R
footprint Ê50-35-0511-Ã_K5035-1R1
footprint Ê50-35-0511-Ã_Primary
pins: 1, 2

## Ê50-35-0,1ÌÊÔ-100Â
designator C?  (value not drawn)
Value: *
footprint Ê50-35-0511_K5035-1R
footprint Ê50-35-0511_K5035-1R1
footprint Ê50-35-0511_Primary
pins: 1, 2

## Ê50-35-0,1ÌÊÔ-100Â-Ã
designator C?  (value not drawn)
Value: *
footprint Ê50-35-0511-Ã_K5035-1R
footprint Ê50-35-0511-Ã_K5035-1R1
footprint Ê50-35-0511-Ã_Primary
pins: 1, 2

## Ê50-35-0,22ÌÊÔ-50Â
designator C?  (value not drawn)
Value: *
footprint Ê50-35-0511_K5035-1R
footprint Ê50-35-0511_K5035-1R1
footprint Ê50-35-0511_Primary
pins: 1, 2

## Ê50-35-0,22ÌÊÔ-50Â-Ã
designator C?  (value not drawn)
Value: *
footprint Ê50-35-0511-Ã_K5035-1R
footprint Ê50-35-0511-Ã_K5035-1R1
footprint Ê50-35-0511-Ã_Primary
pins: 1, 2

## Ê50-35-0,22ÌÊÔ-63Â
designator C?  (value not drawn)
Value: *
footprint Ê50-35-0511_K5035-1R
footprint Ê50-35-0511_K5035-1R1
footprint Ê50-35-0511_Primary
pins: 1, 2

## Ê50-35-0,22ÌÊÔ-63Â-Ã
designator C?  (value not drawn)
Value: *
footprint Ê50-35-0511-Ã_K5035-1R
footprint Ê50-35-0511-Ã_K5035-1R1
footprint Ê50-35-0511-Ã_Primary
pins: 1, 2

## Ê50-35-0,22ÌÊÔ-100Â
designator C?  (value not drawn)
Value: *
footprint Ê50-35-0511_K5035-1R
footprint Ê50-35-0511_K5035-1R1
footprint Ê50-35-0511_Primary
pins: 1, 2

## Ê50-35-0,22ÌÊÔ-100Â-Ã
designator C?  (value not drawn)
Value: *
footprint Ê50-35-0511-Ã_K5035-1R
footprint Ê50-35-0511-Ã_K5035-1R1
footprint Ê50-35-0511-Ã_Primary
pins: 1, 2

## Ê50-35-0,33ÌÊÔ-50Â
designator C?  (value not drawn)
Value: *
footprint Ê50-35-0511_K5035-1R
footprint Ê50-35-0511_K5035-1R1
footprint Ê50-35-0511_Primary
pins: 1, 2

## Ê50-35-0,33ÌÊÔ-50Â-Ã
designator C?  (value not drawn)
Value: *
footprint Ê50-35-0511-Ã_K5035-1R
footprint Ê50-35-0511-Ã_K5035-1R1
footprint Ê50-35-0511-Ã_Primary
pins: 1, 2

## Ê50-35-0,33ÌÊÔ-63Â
designator C?  (value not drawn)
Value: *
footprint Ê50-35-0511_K5035-1R
footprint Ê50-35-0511_K5035-1R1
footprint Ê50-35-0511_Primary
pins: 1, 2

## Ê50-35-0,33ÌÊÔ-63Â-Ã
designator C?  (value not drawn)
Value: *
footprint Ê50-35-0511-Ã_K5035-1R
footprint Ê50-35-0511-Ã_K5035-1R1
footprint Ê50-35-0511-Ã_Primary
pins: 1, 2

## Ê50-35-0,33ÌÊÔ-100Â
designator C?  (value not drawn)
Value: *
footprint Ê50-35-0511_K5035-1R
footprint Ê50-35-0511_K5035-1R1
footprint Ê50-35-0511_Primary
pins: 1, 2

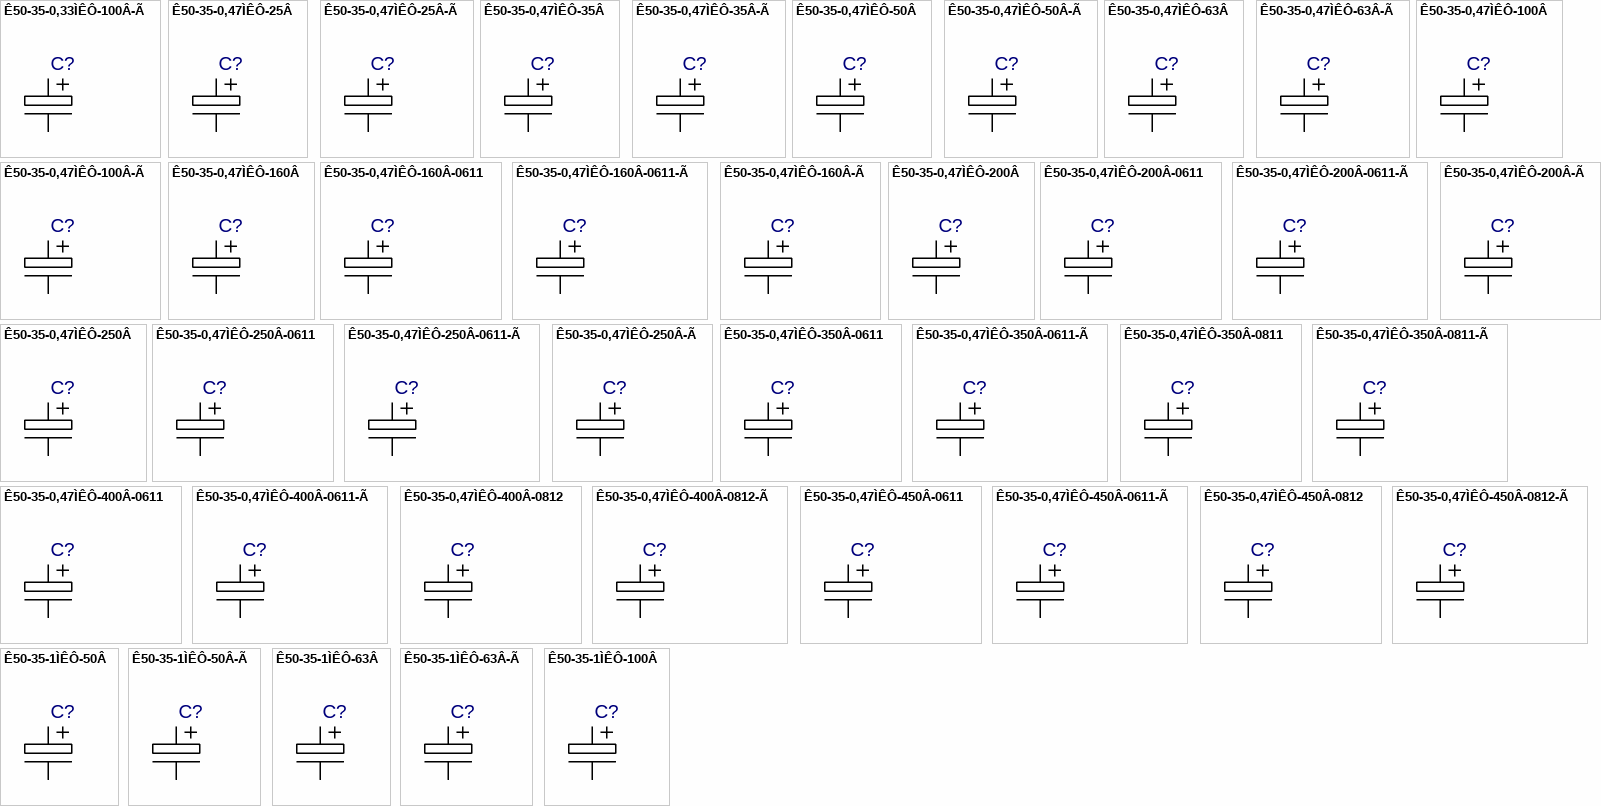
[diagram p21: symbols Ê50-35-0,33ÌÊÔ-100Â-Ã to Ê50-35-1ÌÊÔ-100Â]

## Ê50-35-0,33ÌÊÔ-100Â-Ã
designator C?  (value not drawn)
Value: *
footprint Ê50-35-0511-Ã_K5035-1R
footprint Ê50-35-0511-Ã_K5035-1R1
footprint Ê50-35-0511-Ã_Primary
pins: 1, 2

## Ê50-35-0,47ÌÊÔ-25Â
designator C?  (value not drawn)
Value: *
footprint Ê50-35-0511_K5035-1R
footprint Ê50-35-0511_K5035-1R1
footprint Ê50-35-0511_Primary
pins: 1, 2

## Ê50-35-0,47ÌÊÔ-25Â-Ã
designator C?  (value not drawn)
Value: *
footprint Ê50-35-0511-Ã_K5035-1R
footprint Ê50-35-0511-Ã_K5035-1R1
footprint Ê50-35-0511-Ã_Primary
pins: 1, 2

## Ê50-35-0,47ÌÊÔ-35Â
designator C?  (value not drawn)
Value: *
footprint Ê50-35-0511_K5035-1R
footprint Ê50-35-0511_K5035-1R1
footprint Ê50-35-0511_Primary
pins: 1, 2

## Ê50-35-0,47ÌÊÔ-35Â-Ã
designator C?  (value not drawn)
Value: *
footprint Ê50-35-0511-Ã_K5035-1R
footprint Ê50-35-0511-Ã_K5035-1R1
footprint Ê50-35-0511-Ã_Primary
pins: 1, 2

## Ê50-35-0,47ÌÊÔ-50Â
designator C?  (value not drawn)
Value: *
footprint Ê50-35-0511_K5035-1R
footprint Ê50-35-0511_K5035-1R1
footprint Ê50-35-0511_Primary
pins: 1, 2

## Ê50-35-0,47ÌÊÔ-50Â-Ã
designator C?  (value not drawn)
Value: *
footprint Ê50-35-0511-Ã_K5035-1R
footprint Ê50-35-0511-Ã_K5035-1R1
footprint Ê50-35-0511-Ã_Primary
pins: 1, 2

## Ê50-35-0,47ÌÊÔ-63Â
designator C?  (value not drawn)
Value: *
footprint Ê50-35-0511_K5035-1R
footprint Ê50-35-0511_K5035-1R1
footprint Ê50-35-0511_Primary
pins: 1, 2

## Ê50-35-0,47ÌÊÔ-63Â-Ã
designator C?  (value not drawn)
Value: *
footprint Ê50-35-0511-Ã_K5035-1R
footprint Ê50-35-0511-Ã_K5035-1R1
footprint Ê50-35-0511-Ã_Primary
pins: 1, 2

## Ê50-35-0,47ÌÊÔ-100Â
designator C?  (value not drawn)
Value: *
footprint Ê50-35-0511_K5035-1R
footprint Ê50-35-0511_K5035-1R1
footprint Ê50-35-0511_Primary
pins: 1, 2

## Ê50-35-0,47ÌÊÔ-100Â-Ã
designator C?  (value not drawn)
Value: *
footprint Ê50-35-0511-Ã_K5035-1R
footprint Ê50-35-0511-Ã_K5035-1R1
footprint Ê50-35-0511-Ã_Primary
pins: 1, 2

## Ê50-35-0,47ÌÊÔ-160Â
designator C?  (value not drawn)
Value: *
footprint Ê50-35-0511_K5035-1R
footprint Ê50-35-0511_K5035-1R1
footprint Ê50-35-0511_Primary
pins: 1, 2

## Ê50-35-0,47ÌÊÔ-160Â-0611
designator C?  (value not drawn)
Value: *
footprint Ê50-35-0611_K5035-1R
footprint Ê50-35-0611_K5035-1R1
footprint Ê50-35-0611_Primary
pins: 1, 2

## Ê50-35-0,47ÌÊÔ-160Â-0611-Ã
designator C?  (value not drawn)
Value: *
footprint Ê50-35-0611-Ã_K5035-1R
footprint Ê50-35-0611-Ã_K5035-1R1
footprint Ê50-35-0611-Ã_Primary
pins: 1, 2

## Ê50-35-0,47ÌÊÔ-160Â-Ã
designator C?  (value not drawn)
Value: *
footprint Ê50-35-0511-Ã_K5035-1R
footprint Ê50-35-0511-Ã_K5035-1R1
footprint Ê50-35-0511-Ã_Primary
pins: 1, 2

## Ê50-35-0,47ÌÊÔ-200Â
designator C?  (value not drawn)
Value: *
footprint Ê50-35-0511_K5035-1R
footprint Ê50-35-0511_K5035-1R1
footprint Ê50-35-0511_Primary
pins: 1, 2

## Ê50-35-0,47ÌÊÔ-200Â-0611
designator C?  (value not drawn)
Value: *
footprint Ê50-35-0611_K5035-1R
footprint Ê50-35-0611_K5035-1R1
footprint Ê50-35-0611_Primary
pins: 1, 2

## Ê50-35-0,47ÌÊÔ-200Â-0611-Ã
designator C?  (value not drawn)
Value: *
footprint Ê50-35-0611-Ã_K5035-1R
footprint Ê50-35-0611-Ã_K5035-1R1
footprint Ê50-35-0611-Ã_Primary
pins: 1, 2

## Ê50-35-0,47ÌÊÔ-200Â-Ã
designator C?  (value not drawn)
Value: *
footprint Ê50-35-0511-Ã_K5035-1R
footprint Ê50-35-0511-Ã_K5035-1R1
footprint Ê50-35-0511-Ã_Primary
pins: 1, 2

## Ê50-35-0,47ÌÊÔ-250Â
designator C?  (value not drawn)
Value: *
footprint Ê50-35-0511_K5035-1R
footprint Ê50-35-0511_K5035-1R1
footprint Ê50-35-0511_Primary
pins: 1, 2

## Ê50-35-0,47ÌÊÔ-250Â-0611
designator C?  (value not drawn)
Value: *
footprint Ê50-35-0611_K5035-1R
footprint Ê50-35-0611_K5035-1R1
footprint Ê50-35-0611_Primary
pins: 1, 2

## Ê50-35-0,47ÌÊÔ-250Â-0611-Ã
designator C?  (value not drawn)
Value: *
footprint Ê50-35-0611-Ã_K5035-1R
footprint Ê50-35-0611-Ã_K5035-1R1
footprint Ê50-35-0611-Ã_Primary
pins: 1, 2

## Ê50-35-0,47ÌÊÔ-250Â-Ã
designator C?  (value not drawn)
Value: *
footprint Ê50-35-0511-Ã_K5035-1R
footprint Ê50-35-0511-Ã_K5035-1R1
footprint Ê50-35-0511-Ã_Primary
pins: 1, 2

## Ê50-35-0,47ÌÊÔ-350Â-0611
designator C?  (value not drawn)
Value: *
footprint Ê50-35-0611_K5035-1R
footprint Ê50-35-0611_K5035-1R1
footprint Ê50-35-0611_Primary
pins: 1, 2

## Ê50-35-0,47ÌÊÔ-350Â-0611-Ã
designator C?  (value not drawn)
Value: *
footprint Ê50-35-0611-Ã_K5035-1R
footprint Ê50-35-0611-Ã_K5035-1R1
footprint Ê50-35-0611-Ã_Primary
pins: 1, 2

## Ê50-35-0,47ÌÊÔ-350Â-0811
designator C?  (value not drawn)
Value: *
footprint R50-35-08XX_K5035-2R
footprint R50-35-08XX_K5035-2R1
footprint R50-35-08XX_Primary
pins: 1, 2

## Ê50-35-0,47ÌÊÔ-350Â-0811-Ã
designator C?  (value not drawn)
Value: *
footprint Ê50-35-08XX-Ã_K5035-2R
footprint Ê50-35-08XX-Ã_K5035-2R1
footprint Ê50-35-08XX-Ã_Primary
pins: 1, 2

## Ê50-35-0,47ÌÊÔ-400Â-0611
designator C?  (value not drawn)
Value: *
footprint Ê50-35-0611_K5035-1R
footprint Ê50-35-0611_K5035-1R1
footprint Ê50-35-0611_Primary
pins: 1, 2

## Ê50-35-0,47ÌÊÔ-400Â-0611-Ã
designator C?  (value not drawn)
Value: *
footprint Ê50-35-0611-Ã_K5035-1R
footprint Ê50-35-0611-Ã_K5035-1R1
footprint Ê50-35-0611-Ã_Primary
pins: 1, 2

## Ê50-35-0,47ÌÊÔ-400Â-0812
designator C?  (value not drawn)
Value: *
footprint R50-35-08XX_K5035-2R
footprint R50-35-08XX_K5035-2R1
footprint R50-35-08XX_Primary
pins: 1, 2

## Ê50-35-0,47ÌÊÔ-400Â-0812-Ã
designator C?  (value not drawn)
Value: *
footprint Ê50-35-08XX-Ã_K5035-2R
footprint Ê50-35-08XX-Ã_K5035-2R1
footprint Ê50-35-08XX-Ã_Primary
pins: 1, 2

## Ê50-35-0,47ÌÊÔ-450Â-0611
designator C?  (value not drawn)
Value: *
footprint Ê50-35-0611_K5035-1R
footprint Ê50-35-0611_K5035-1R1
footprint Ê50-35-0611_Primary
pins: 1, 2

## Ê50-35-0,47ÌÊÔ-450Â-0611-Ã
designator C?  (value not drawn)
Value: *
footprint Ê50-35-0611-Ã_K5035-1R
footprint Ê50-35-0611-Ã_K5035-1R1
footprint Ê50-35-0611-Ã_Primary
pins: 1, 2

## Ê50-35-0,47ÌÊÔ-450Â-0812
designator C?  (value not drawn)
Value: *
footprint R50-35-08XX_K5035-2R
footprint R50-35-08XX_K5035-2R1
footprint R50-35-08XX_Primary
pins: 1, 2

## Ê50-35-0,47ÌÊÔ-450Â-0812-Ã
designator C?  (value not drawn)
Value: *
footprint Ê50-35-08XX-Ã_K5035-2R
footprint Ê50-35-08XX-Ã_K5035-2R1
footprint Ê50-35-08XX-Ã_Primary
pins: 1, 2

## Ê50-35-1ÌÊÔ-50Â
designator C?  (value not drawn)
Value: *
footprint Ê50-35-0511_K5035-1R
footprint Ê50-35-0511_K5035-1R1
footprint Ê50-35-0511_Primary
pins: 1, 2

## Ê50-35-1ÌÊÔ-50Â-Ã
designator C?  (value not drawn)
Value: *
footprint Ê50-35-0511-Ã_K5035-1R
footprint Ê50-35-0511-Ã_K5035-1R1
footprint Ê50-35-0511-Ã_Primary
pins: 1, 2

## Ê50-35-1ÌÊÔ-63Â
designator C?  (value not drawn)
Value: *
footprint Ê50-35-0511_K5035-1R
footprint Ê50-35-0511_K5035-1R1
footprint Ê50-35-0511_Primary
pins: 1, 2

## Ê50-35-1ÌÊÔ-63Â-Ã
designator C?  (value not drawn)
Value: *
footprint Ê50-35-0511-Ã_K5035-1R
footprint Ê50-35-0511-Ã_K5035-1R1
footprint Ê50-35-0511-Ã_Primary
pins: 1, 2

## Ê50-35-1ÌÊÔ-100Â
designator C?  (value not drawn)
Value: *
footprint Ê50-35-0511_K5035-1R
footprint Ê50-35-0511_K5035-1R1
footprint Ê50-35-0511_Primary
pins: 1, 2

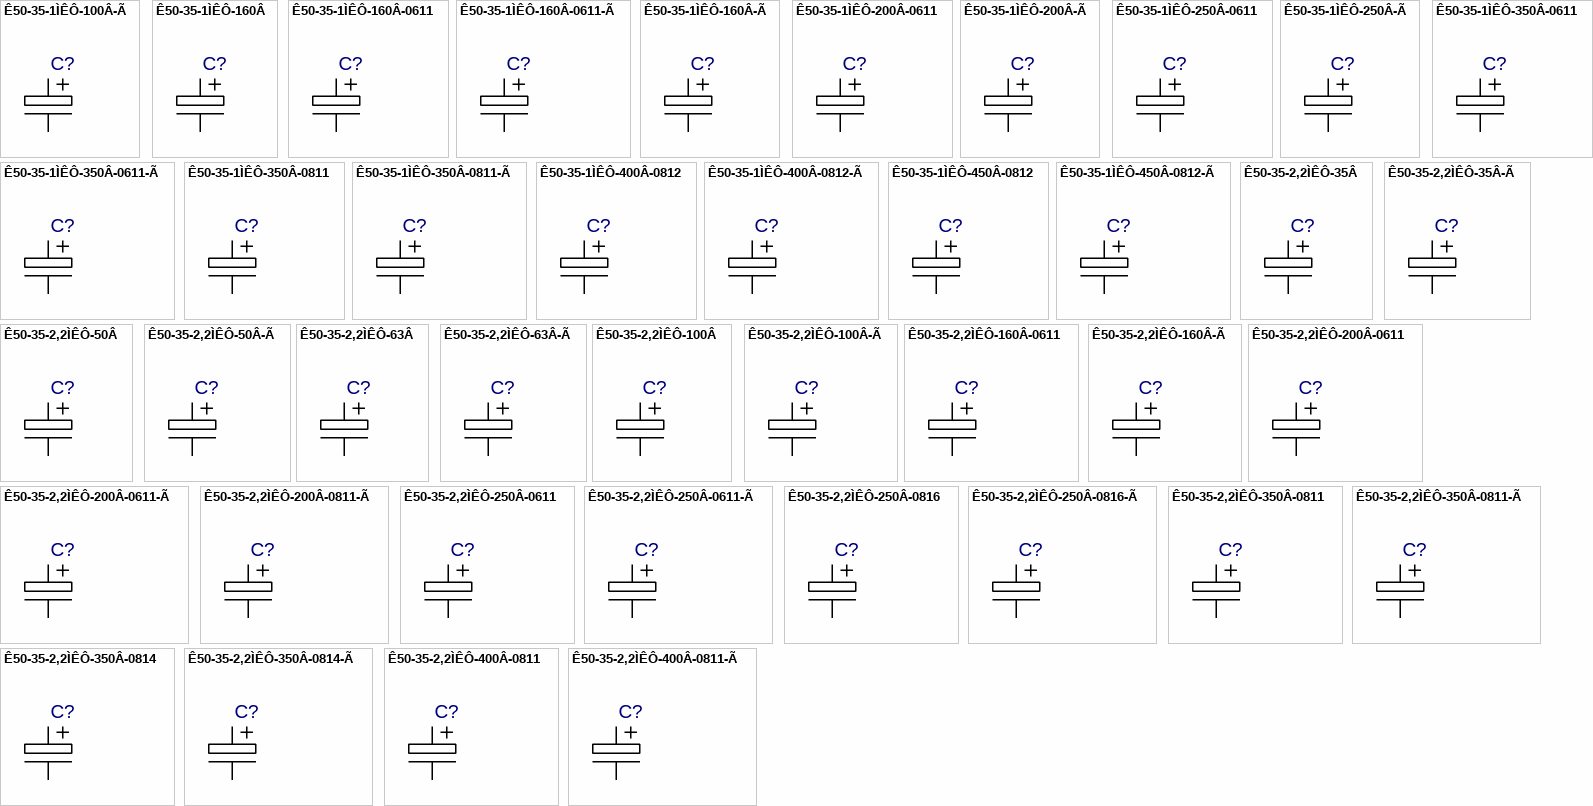
[diagram p22: symbols Ê50-35-1ÌÊÔ-100Â-Ã to Ê50-35-2,2ÌÊÔ-400Â-0811-Ã]

## Ê50-35-1ÌÊÔ-100Â-Ã
designator C?  (value not drawn)
Value: *
footprint Ê50-35-0511-Ã_K5035-1R
footprint Ê50-35-0511-Ã_K5035-1R1
footprint Ê50-35-0511-Ã_Primary
pins: 1, 2

## Ê50-35-1ÌÊÔ-160Â
designator C?  (value not drawn)
Value: *
footprint Ê50-35-0511_K5035-1R
footprint Ê50-35-0511_K5035-1R1
footprint Ê50-35-0511_Primary
pins: 1, 2

## Ê50-35-1ÌÊÔ-160Â-0611
designator C?  (value not drawn)
Value: *
footprint Ê50-35-0611_K5035-1R
footprint Ê50-35-0611_K5035-1R1
footprint Ê50-35-0611_Primary
pins: 1, 2

## Ê50-35-1ÌÊÔ-160Â-0611-Ã
designator C?  (value not drawn)
Value: *
footprint Ê50-35-0611-Ã_K5035-1R
footprint Ê50-35-0611-Ã_K5035-1R1
footprint Ê50-35-0611-Ã_Primary
pins: 1, 2

## Ê50-35-1ÌÊÔ-160Â-Ã
designator C?  (value not drawn)
Value: *
footprint Ê50-35-0511-Ã_K5035-1R
footprint Ê50-35-0511-Ã_K5035-1R1
footprint Ê50-35-0511-Ã_Primary
pins: 1, 2

## Ê50-35-1ÌÊÔ-200Â-0611
designator C?  (value not drawn)
Value: *
footprint Ê50-35-0611_K5035-1R
footprint Ê50-35-0611_K5035-1R1
footprint Ê50-35-0611_Primary
pins: 1, 2

## Ê50-35-1ÌÊÔ-200Â-Ã
designator C?  (value not drawn)
Value: *
footprint Ê50-35-0611-Ã_K5035-1R
footprint Ê50-35-0611-Ã_K5035-1R1
footprint Ê50-35-0611-Ã_Primary
pins: 1, 2

## Ê50-35-1ÌÊÔ-250Â-0611
designator C?  (value not drawn)
Value: *
footprint Ê50-35-0611_K5035-1R
footprint Ê50-35-0611_K5035-1R1
footprint Ê50-35-0611_Primary
pins: 1, 2

## Ê50-35-1ÌÊÔ-250Â-Ã
designator C?  (value not drawn)
Value: *
footprint Ê50-35-0611-Ã_K5035-1R
footprint Ê50-35-0611-Ã_K5035-1R1
footprint Ê50-35-0611-Ã_Primary
pins: 1, 2

## Ê50-35-1ÌÊÔ-350Â-0611
designator C?  (value not drawn)
Value: *
footprint Ê50-35-0611_K5035-1R
footprint Ê50-35-0611_K5035-1R1
footprint Ê50-35-0611_Primary
pins: 1, 2

## Ê50-35-1ÌÊÔ-350Â-0611-Ã
designator C?  (value not drawn)
Value: *
footprint Ê50-35-0611-Ã_K5035-1R
footprint Ê50-35-0611-Ã_K5035-1R1
footprint Ê50-35-0611-Ã_Primary
pins: 1, 2

## Ê50-35-1ÌÊÔ-350Â-0811
designator C?  (value not drawn)
Value: *
footprint R50-35-08XX_K5035-2R
footprint R50-35-08XX_K5035-2R1
footprint R50-35-08XX_Primary
pins: 1, 2

## Ê50-35-1ÌÊÔ-350Â-0811-Ã
designator C?  (value not drawn)
Value: *
footprint Ê50-35-08XX-Ã_K5035-2R
footprint Ê50-35-08XX-Ã_K5035-2R1
footprint Ê50-35-08XX-Ã_Primary
pins: 1, 2

## Ê50-35-1ÌÊÔ-400Â-0812
designator C?  (value not drawn)
Value: *
footprint R50-35-08XX_K5035-2R
footprint R50-35-08XX_K5035-2R1
footprint R50-35-08XX_Primary
pins: 1, 2

## Ê50-35-1ÌÊÔ-400Â-0812-Ã
designator C?  (value not drawn)
Value: *
footprint Ê50-35-08XX-Ã_K5035-2R
footprint Ê50-35-08XX-Ã_K5035-2R1
footprint Ê50-35-08XX-Ã_Primary
pins: 1, 2

## Ê50-35-1ÌÊÔ-450Â-0812
designator C?  (value not drawn)
Value: *
footprint R50-35-08XX_K5035-2R
footprint R50-35-08XX_K5035-2R1
footprint R50-35-08XX_Primary
pins: 1, 2

## Ê50-35-1ÌÊÔ-450Â-0812-Ã
designator C?  (value not drawn)
Value: *
footprint Ê50-35-08XX-Ã_K5035-2R
footprint Ê50-35-08XX-Ã_K5035-2R1
footprint Ê50-35-08XX-Ã_Primary
pins: 1, 2

## Ê50-35-2,2ÌÊÔ-35Â
designator C?  (value not drawn)
Value: *
footprint Ê50-35-0511_K5035-1R
footprint Ê50-35-0511_K5035-1R1
footprint Ê50-35-0511_Primary
pins: 1, 2